# Altium integrated library Actel ProASIC PLUS.IntLib: 242 symbols (part 3 of 36)
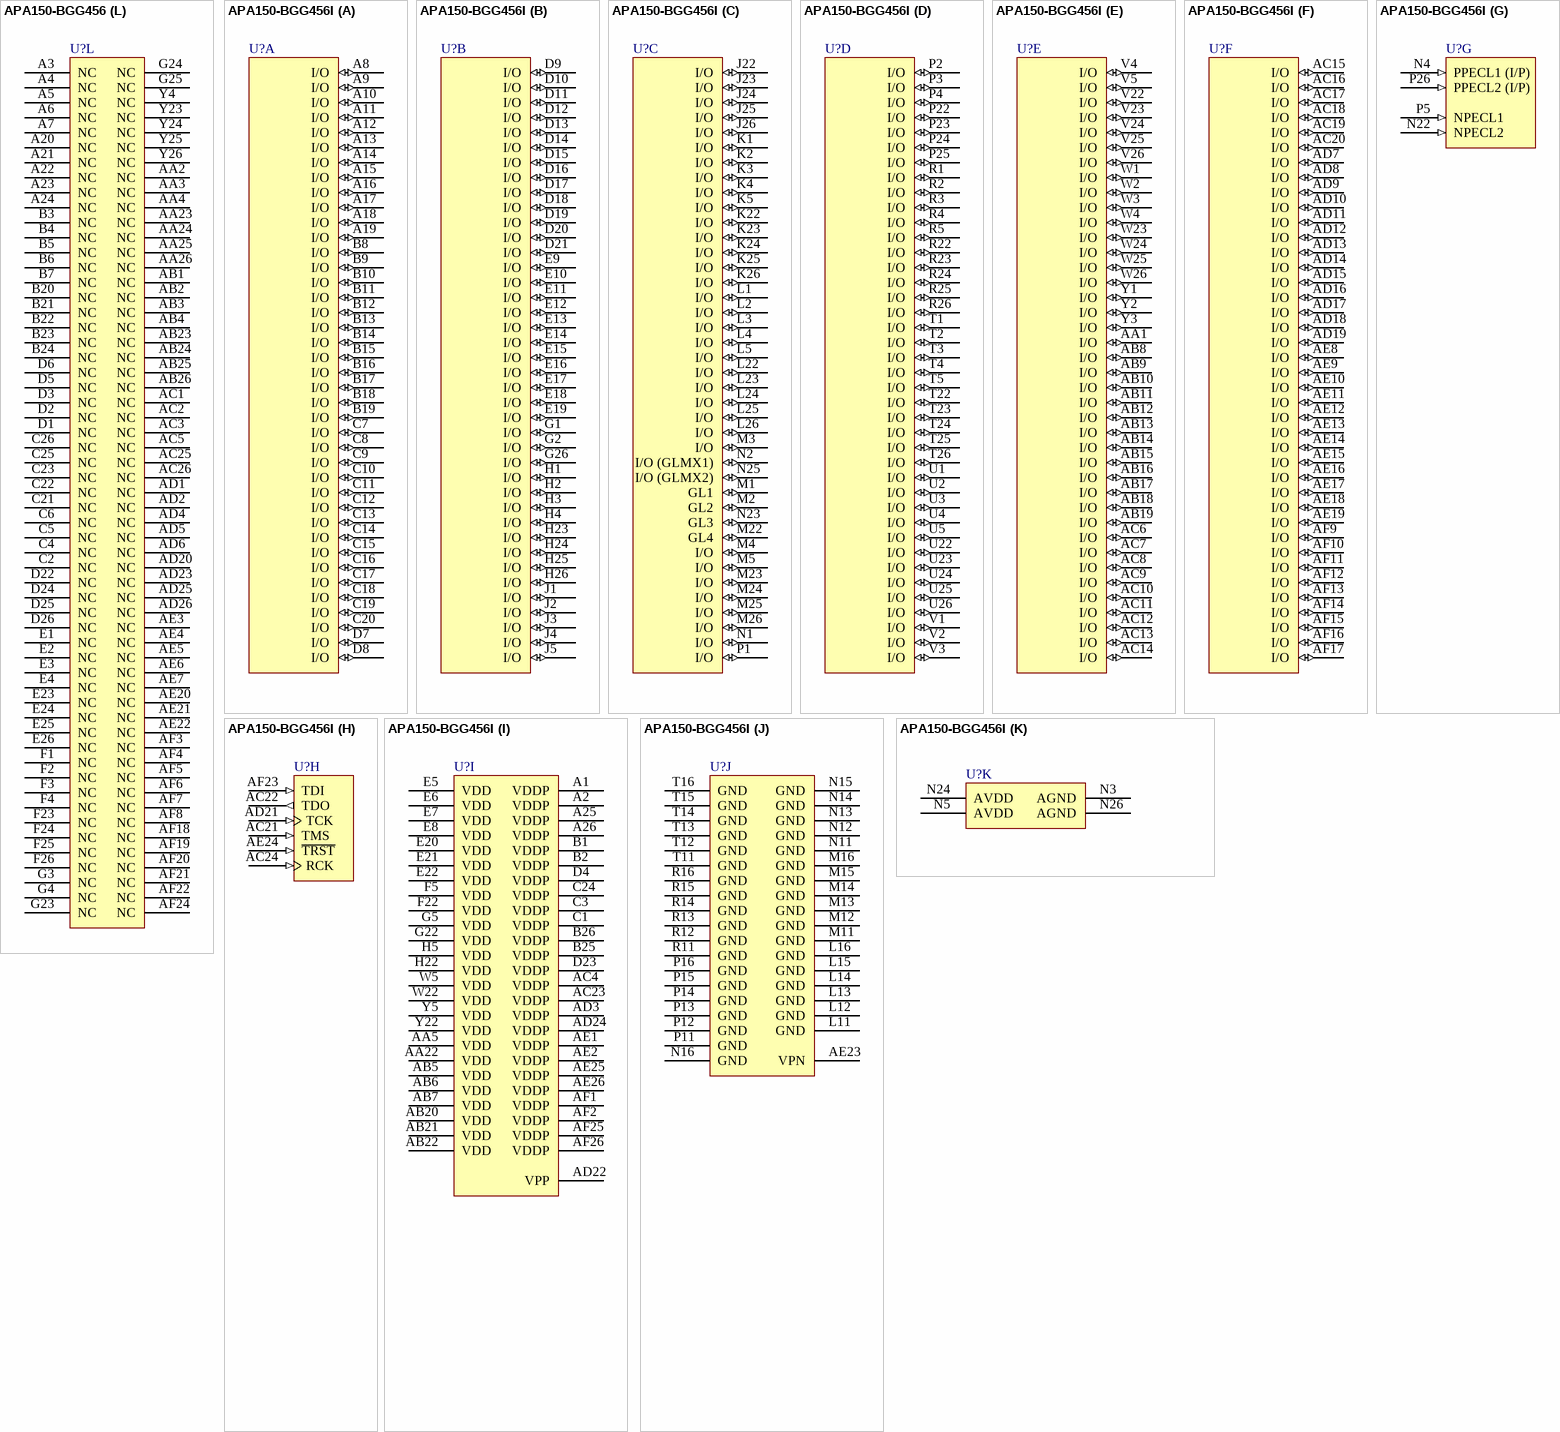
[diagram p199: symbols APA150-BGG456 to APA150-BGG456I]

## APA150-BGG456
designator U?
ProASICPlus APA150 Flash FPGA, 242 User IOs, 456-Pin PBGA, Speed Grade Standard, Commercial Grade, Pb-Free; DatasheetVersion: v5.9, Jan-2010; PackageVersion: ver11.2, Nov-2009; PackageReference: BG456; PackageDescription: 456-Ball Plastic Ball Grid Array (BG456); Code_JEDEC: MS-034-BAR-2; ComponentLink1Description: Manufacturer URL; ComponentLink1URL: http://www.actel.com/; ComponentLink2Description: ProASIC PLUS Datasheet; ComponentLink2URL: http://www.actel.com/documents/ProASICPLUS_DS.pdf; ComponentLink3Description: Package Mechanical Drawings; ComponentLink3URL: http://www.actel.com/documents/PckgMechDrwngs.pdf; ComponentLink4Description: ProASIC PLUS Documents; ComponentLink4URL: http://www.actel.com/products/proasicplus/docs.aspx
footprint BG456 (BGA, 456-Leads, Body 35x35mm, Pitch 1.27mm)
part A pins: A8 I/O (io), A9 I/O (io), A10 I/O (io), A11 I/O (io), A12 I/O (io), A13 I/O (io), A14 I/O (io), A15 I/O (io), A16 I/O (io), A17 I/O (io), A18 I/O (io), A19 I/O (io), B8 I/O (io), B9 I/O (io), B10 I/O (io), B11 I/O (io), B12 I/O (io), B13 I/O (io), B14 I/O (io), B15 I/O (io), B16 I/O (io), B17 I/O (io), B18 I/O (io), B19 I/O (io), C7 I/O (io), C8 I/O (io), C9 I/O (io), C10 I/O (io), C11 I/O (io), C12 I/O (io), C13 I/O (io), C14 I/O (io), C15 I/O (io), C16 I/O (io), C17 I/O (io), C18 I/O (io), C19 I/O (io), C20 I/O (io), D7 I/O (io), D8 I/O (io)
part B pins: D9 I/O (io), D10 I/O (io), D11 I/O (io), D12 I/O (io), D13 I/O (io), D14 I/O (io), D15 I/O (io), D16 I/O (io), D17 I/O (io), D18 I/O (io), D19 I/O (io), D20 I/O (io), D21 I/O (io), E9 I/O (io), E10 I/O (io), E11 I/O (io), E12 I/O (io), E13 I/O (io), E14 I/O (io), E15 I/O (io), E16 I/O (io), E17 I/O (io), E18 I/O (io), E19 I/O (io), G1 I/O (io), G2 I/O (io), G26 I/O (io), H1 I/O (io), H2 I/O (io), H3 I/O (io), H4 I/O (io), H23 I/O (io), H24 I/O (io), H25 I/O (io), H26 I/O (io), J1 I/O (io), J2 I/O (io), J3 I/O (io), J4 I/O (io), J5 I/O (io)
part C pins: J22 I/O (io), J23 I/O (io), J24 I/O (io), J25 I/O (io), J26 I/O (io), K1 I/O (io), K2 I/O (io), K3 I/O (io), K4 I/O (io), K5 I/O (io), K22 I/O (io), K23 I/O (io), K24 I/O (io), K25 I/O (io), K26 I/O (io), L1 I/O (io), L2 I/O (io), L3 I/O (io), L4 I/O (io), L5 I/O (io), L22 I/O (io), L23 I/O (io), L24 I/O (io), L25 I/O (io), L26 I/O (io), M1 GL1 (io), M2 GL2 (io), M3 I/O (io), M4 I/O (io), M5 I/O (io), M22 GL4 (io), M23 I/O (io), M24 I/O (io), M25 I/O (io), M26 I/O (io), N1 I/O (io), N2 I/O (GLMX1) (io), N23 GL3 (io), N25 I/O (GLMX2) (io), P1 I/O (io)
part D pins: P2 I/O (io), P3 I/O (io), P4 I/O (io), P22 I/O (io), P23 I/O (io), P24 I/O (io), P25 I/O (io), R1 I/O (io), R2 I/O (io), R3 I/O (io), R4 I/O (io), R5 I/O (io), R22 I/O (io), R23 I/O (io), R24 I/O (io), R25 I/O (io), R26 I/O (io), T1 I/O (io), T2 I/O (io), T3 I/O (io), T4 I/O (io), T5 I/O (io), T22 I/O (io), T23 I/O (io), T24 I/O (io), T25 I/O (io), T26 I/O (io), U1 I/O (io), U2 I/O (io), U3 I/O (io), U4 I/O (io), U5 I/O (io), U22 I/O (io), U23 I/O (io), U24 I/O (io), U25 I/O (io), U26 I/O (io), V1 I/O (io), V2 I/O (io), V3 I/O (io)
part E pins: AA1 I/O (io), AB8 I/O (io), AB9 I/O (io), AB10 I/O (io), AB11 I/O (io), AB12 I/O (io), AB13 I/O (io), AB14 I/O (io), AB15 I/O (io), AB16 I/O (io), AB17 I/O (io), AB18 I/O (io), AB19 I/O (io), AC6 I/O (io), AC7 I/O (io), AC8 I/O (io), AC9 I/O (io), AC10 I/O (io), AC11 I/O (io), AC12 I/O (io), AC13 I/O (io), AC14 I/O (io), V4 I/O (io), V5 I/O (io), V22 I/O (io), V23 I/O (io), V24 I/O (io), V25 I/O (io), V26 I/O (io), W1 I/O (io), W2 I/O (io), W3 I/O (io), W4 I/O (io), W23 I/O (io), W24 I/O (io), W25 I/O (io), W26 I/O (io), Y1 I/O (io), Y2 I/O (io), Y3 I/O (io)
part F pins: AC15 I/O (io), AC16 I/O (io), AC17 I/O (io), AC18 I/O (io), AC19 I/O (io), AC20 I/O (io), AD7 I/O (io), AD8 I/O (io), AD9 I/O (io), AD10 I/O (io), AD11 I/O (io), AD12 I/O (io), AD13 I/O (io), AD14 I/O (io), AD15 I/O (io), AD16 I/O (io), AD17 I/O (io), AD18 I/O (io), AD19 I/O (io), AE8 I/O (io), AE9 I/O (io), AE10 I/O (io), AE11 I/O (io), AE12 I/O (io), AE13 I/O (io), AE14 I/O (io), AE15 I/O (io), AE16 I/O (io), AE17 I/O (io), AE18 I/O (io), AE19 I/O (io), AF9 I/O (io), AF10 I/O (io), AF11 I/O (io), AF12 I/O (io), AF13 I/O (io), AF14 I/O (io), AF15 I/O (io), AF16 I/O (io), AF17 I/O (io)
part G pins: N4 PPECL1 (I/P) (in), N22 NPECL2 (in), P5 NPECL1 (in), P26 PPECL2 (I/P) (in)
part H pins: AC21 TMS (in), AC22 TDO (out), AC24 RCK (in), AD21 TCK (in), AE24 ~{TRST} (in), AF23 TDI (in)
part I pins: A1 VDDP (power), A2 VDDP (power), A25 VDDP (power), A26 VDDP (power), AA5 VDD (power), AA22 VDD (power), AB5 VDD (power), AB6 VDD (power), AB7 VDD (power), AB20 VDD (power), AB21 VDD (power), AB22 VDD (power), AC4 VDDP (power), AC23 VDDP (power), AD3 VDDP (power), AD22 VPP (power), AD24 VDDP (power), AE1 VDDP (power), AE2 VDDP (power), AE25 VDDP (power), AE26 VDDP (power), AF1 VDDP (power), AF2 VDDP (power), AF25 VDDP (power), AF26 VDDP (power), B1 VDDP (power), B2 VDDP (power), B25 VDDP (power), B26 VDDP (power), C1 VDDP (power), C3 VDDP (power), C24 VDDP (power), D4 VDDP (power), D23 VDDP (power), E5 VDD (power), E6 VDD (power), E7 VDD (power), E8 VDD (power), E20 VDD (power), E21 VDD (power), E22 VDD (power), F5 VDD (power), F22 VDD (power), G5 VDD (power), G22 VDD (power), H5 VDD (power), H22 VDD (power), W5 VDD (power), W22 VDD (power), Y5 VDD (power), Y22 VDD (power)
part J pins: AE23 VPN (power), L11 GND (power), L12 GND (power), L13 GND (power), L14 GND (power), L15 GND (power), L16 GND (power), M11 GND (power), M12 GND (power), M13 GND (power), M14 GND (power), M15 GND (power), M16 GND (power), N11 GND (power), N12 GND (power), N13 GND (power), N14 GND (power), N15 GND (power), N16 GND (power), P11 GND (power), P12 GND (power), P13 GND (power), P14 GND (power), P15 GND (power), P16 GND (power), R11 GND (power), R12 GND (power), R13 GND (power), R14 GND (power), R15 GND (power), R16 GND (power), T11 GND (power), T12 GND (power), T13 GND (power), T14 GND (power), T15 GND (power), T16 GND (power)
part K pins: N3 AGND (power), N5 AVDD (power), N24 AVDD (power), N26 AGND (power)
part L pins: A3 NC, A4 NC, A5 NC, A6 NC, A7 NC, A20 NC, A21 NC, A22 NC, A23 NC, A24 NC, AA2 NC, AA3 NC, AA4 NC, AA23 NC, AA24 NC, AA25 NC, AA26 NC, AB1 NC, AB2 NC, AB3 NC, AB4 NC, AB23 NC, AB24 NC, AB25 NC, AB26 NC, AC1 NC, AC2 NC, AC3 NC, AC5 NC, AC25 NC, AC26 NC, AD1 NC, AD2 NC, AD4 NC, AD5 NC, AD6 NC, AD20 NC, AD23 NC, AD25 NC, AD26 NC, AE3 NC, AE4 NC, AE5 NC, AE6 NC, AE7 NC, AE20 NC, AE21 NC, AE22 NC, AF3 NC, AF4 NC, AF5 NC, AF6 NC, AF7 NC, AF8 NC, AF18 NC, AF19 NC, AF20 NC, AF21 NC, AF22 NC, AF24 NC, B3 NC, B4 NC, B5 NC, B6 NC, B7 NC, B20 NC, B21 NC, B22 NC, B23 NC, B24 NC, C2 NC, C4 NC, C5 NC, C6 NC, C21 NC, C22 NC, C23 NC, C25 NC, C26 NC, D1 NC, D2 NC, D3 NC, D5 NC, D6 NC, D22 NC, D24 NC, D25 NC, D26 NC, E1 NC, E2 NC, E3 NC, E4 NC, E23 NC, E24 NC, E25 NC, E26 NC, F1 NC, F2 NC, F3 NC, F4 NC, F23 NC, F24 NC, F25 NC, F26 NC, G3 NC, G4 NC, G23 NC, G24 NC, G25 NC, Y4 NC, Y23 NC, Y24 NC, Y25 NC, Y26 NC

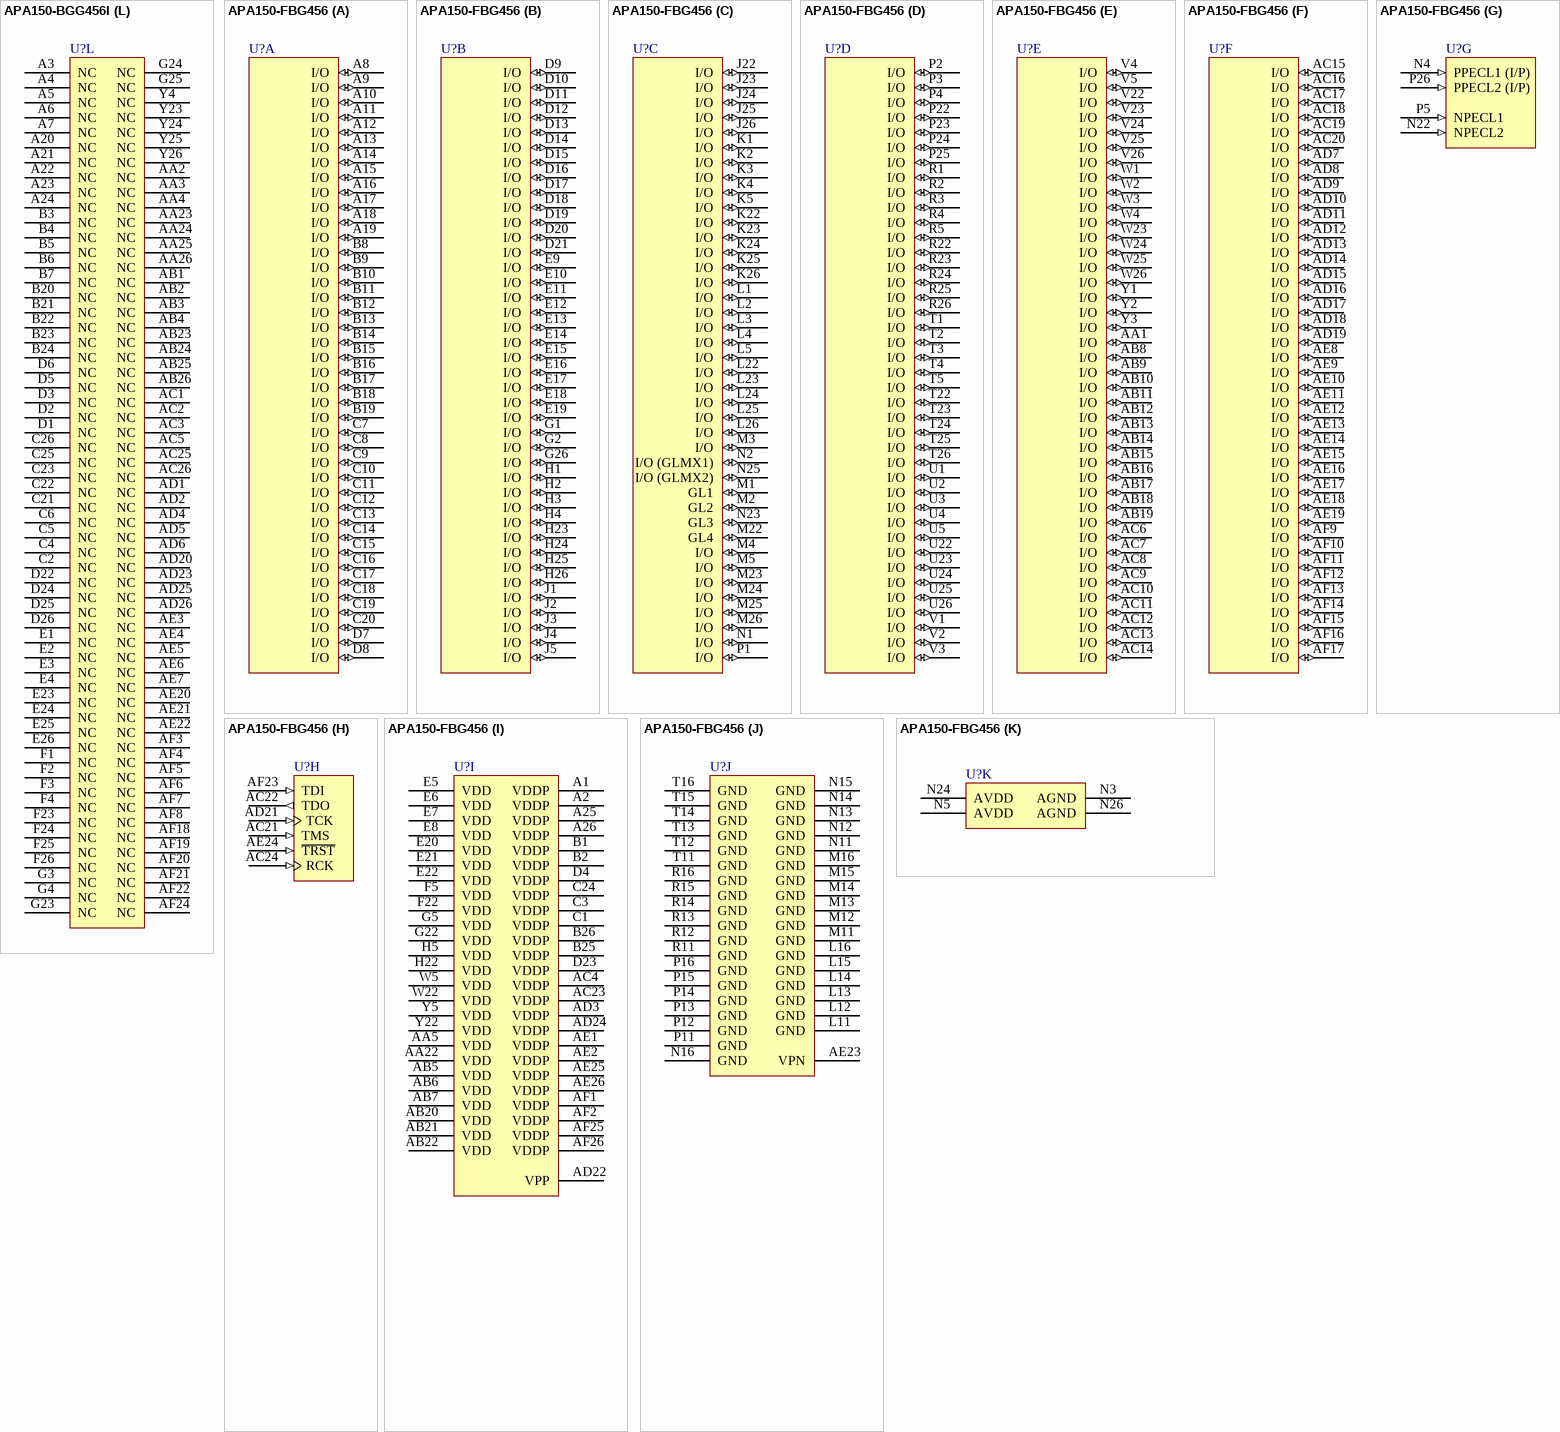
[diagram p16: symbols APA150-BGG456I to APA150-FBG456]

## APA150-BGG456I
designator U?
ProASICPlus APA150 Flash FPGA, 242 User IOs, 456-Pin PBGA, Speed Grade Standard, Industrial Grade, Pb-Free; DatasheetVersion: v5.9, Jan-2010; PackageVersion: ver11.2, Nov-2009; PackageReference: BG456; PackageDescription: 456-Ball Plastic Ball Grid Array (BG456); Code_JEDEC: MS-034-BAR-2; ComponentLink1Description: Manufacturer URL; ComponentLink1URL: http://www.actel.com/; ComponentLink2Description: ProASIC PLUS Datasheet; ComponentLink2URL: http://www.actel.com/documents/ProASICPLUS_DS.pdf; ComponentLink3Description: Package Mechanical Drawings; ComponentLink3URL: http://www.actel.com/documents/PckgMechDrwngs.pdf; ComponentLink4Description: ProASIC PLUS Documents; ComponentLink4URL: http://www.actel.com/products/proasicplus/docs.aspx
footprint BG456 (BGA, 456-Leads, Body 35x35mm, Pitch 1.27mm)
part A pins: A8 I/O (io), A9 I/O (io), A10 I/O (io), A11 I/O (io), A12 I/O (io), A13 I/O (io), A14 I/O (io), A15 I/O (io), A16 I/O (io), A17 I/O (io), A18 I/O (io), A19 I/O (io), B8 I/O (io), B9 I/O (io), B10 I/O (io), B11 I/O (io), B12 I/O (io), B13 I/O (io), B14 I/O (io), B15 I/O (io), B16 I/O (io), B17 I/O (io), B18 I/O (io), B19 I/O (io), C7 I/O (io), C8 I/O (io), C9 I/O (io), C10 I/O (io), C11 I/O (io), C12 I/O (io), C13 I/O (io), C14 I/O (io), C15 I/O (io), C16 I/O (io), C17 I/O (io), C18 I/O (io), C19 I/O (io), C20 I/O (io), D7 I/O (io), D8 I/O (io)
part B pins: D9 I/O (io), D10 I/O (io), D11 I/O (io), D12 I/O (io), D13 I/O (io), D14 I/O (io), D15 I/O (io), D16 I/O (io), D17 I/O (io), D18 I/O (io), D19 I/O (io), D20 I/O (io), D21 I/O (io), E9 I/O (io), E10 I/O (io), E11 I/O (io), E12 I/O (io), E13 I/O (io), E14 I/O (io), E15 I/O (io), E16 I/O (io), E17 I/O (io), E18 I/O (io), E19 I/O (io), G1 I/O (io), G2 I/O (io), G26 I/O (io), H1 I/O (io), H2 I/O (io), H3 I/O (io), H4 I/O (io), H23 I/O (io), H24 I/O (io), H25 I/O (io), H26 I/O (io), J1 I/O (io), J2 I/O (io), J3 I/O (io), J4 I/O (io), J5 I/O (io)
part C pins: J22 I/O (io), J23 I/O (io), J24 I/O (io), J25 I/O (io), J26 I/O (io), K1 I/O (io), K2 I/O (io), K3 I/O (io), K4 I/O (io), K5 I/O (io), K22 I/O (io), K23 I/O (io), K24 I/O (io), K25 I/O (io), K26 I/O (io), L1 I/O (io), L2 I/O (io), L3 I/O (io), L4 I/O (io), L5 I/O (io), L22 I/O (io), L23 I/O (io), L24 I/O (io), L25 I/O (io), L26 I/O (io), M1 GL1 (io), M2 GL2 (io), M3 I/O (io), M4 I/O (io), M5 I/O (io), M22 GL4 (io), M23 I/O (io), M24 I/O (io), M25 I/O (io), M26 I/O (io), N1 I/O (io), N2 I/O (GLMX1) (io), N23 GL3 (io), N25 I/O (GLMX2) (io), P1 I/O (io)
part D pins: P2 I/O (io), P3 I/O (io), P4 I/O (io), P22 I/O (io), P23 I/O (io), P24 I/O (io), P25 I/O (io), R1 I/O (io), R2 I/O (io), R3 I/O (io), R4 I/O (io), R5 I/O (io), R22 I/O (io), R23 I/O (io), R24 I/O (io), R25 I/O (io), R26 I/O (io), T1 I/O (io), T2 I/O (io), T3 I/O (io), T4 I/O (io), T5 I/O (io), T22 I/O (io), T23 I/O (io), T24 I/O (io), T25 I/O (io), T26 I/O (io), U1 I/O (io), U2 I/O (io), U3 I/O (io), U4 I/O (io), U5 I/O (io), U22 I/O (io), U23 I/O (io), U24 I/O (io), U25 I/O (io), U26 I/O (io), V1 I/O (io), V2 I/O (io), V3 I/O (io)
part E pins: AA1 I/O (io), AB8 I/O (io), AB9 I/O (io), AB10 I/O (io), AB11 I/O (io), AB12 I/O (io), AB13 I/O (io), AB14 I/O (io), AB15 I/O (io), AB16 I/O (io), AB17 I/O (io), AB18 I/O (io), AB19 I/O (io), AC6 I/O (io), AC7 I/O (io), AC8 I/O (io), AC9 I/O (io), AC10 I/O (io), AC11 I/O (io), AC12 I/O (io), AC13 I/O (io), AC14 I/O (io), V4 I/O (io), V5 I/O (io), V22 I/O (io), V23 I/O (io), V24 I/O (io), V25 I/O (io), V26 I/O (io), W1 I/O (io), W2 I/O (io), W3 I/O (io), W4 I/O (io), W23 I/O (io), W24 I/O (io), W25 I/O (io), W26 I/O (io), Y1 I/O (io), Y2 I/O (io), Y3 I/O (io)
part F pins: AC15 I/O (io), AC16 I/O (io), AC17 I/O (io), AC18 I/O (io), AC19 I/O (io), AC20 I/O (io), AD7 I/O (io), AD8 I/O (io), AD9 I/O (io), AD10 I/O (io), AD11 I/O (io), AD12 I/O (io), AD13 I/O (io), AD14 I/O (io), AD15 I/O (io), AD16 I/O (io), AD17 I/O (io), AD18 I/O (io), AD19 I/O (io), AE8 I/O (io), AE9 I/O (io), AE10 I/O (io), AE11 I/O (io), AE12 I/O (io), AE13 I/O (io), AE14 I/O (io), AE15 I/O (io), AE16 I/O (io), AE17 I/O (io), AE18 I/O (io), AE19 I/O (io), AF9 I/O (io), AF10 I/O (io), AF11 I/O (io), AF12 I/O (io), AF13 I/O (io), AF14 I/O (io), AF15 I/O (io), AF16 I/O (io), AF17 I/O (io)
part G pins: N4 PPECL1 (I/P) (in), N22 NPECL2 (in), P5 NPECL1 (in), P26 PPECL2 (I/P) (in)
part H pins: AC21 TMS (in), AC22 TDO (out), AC24 RCK (in), AD21 TCK (in), AE24 ~{TRST} (in), AF23 TDI (in)
part I pins: A1 VDDP (power), A2 VDDP (power), A25 VDDP (power), A26 VDDP (power), AA5 VDD (power), AA22 VDD (power), AB5 VDD (power), AB6 VDD (power), AB7 VDD (power), AB20 VDD (power), AB21 VDD (power), AB22 VDD (power), AC4 VDDP (power), AC23 VDDP (power), AD3 VDDP (power), AD22 VPP (power), AD24 VDDP (power), AE1 VDDP (power), AE2 VDDP (power), AE25 VDDP (power), AE26 VDDP (power), AF1 VDDP (power), AF2 VDDP (power), AF25 VDDP (power), AF26 VDDP (power), B1 VDDP (power), B2 VDDP (power), B25 VDDP (power), B26 VDDP (power), C1 VDDP (power), C3 VDDP (power), C24 VDDP (power), D4 VDDP (power), D23 VDDP (power), E5 VDD (power), E6 VDD (power), E7 VDD (power), E8 VDD (power), E20 VDD (power), E21 VDD (power), E22 VDD (power), F5 VDD (power), F22 VDD (power), G5 VDD (power), G22 VDD (power), H5 VDD (power), H22 VDD (power), W5 VDD (power), W22 VDD (power), Y5 VDD (power), Y22 VDD (power)
part J pins: AE23 VPN (power), L11 GND (power), L12 GND (power), L13 GND (power), L14 GND (power), L15 GND (power), L16 GND (power), M11 GND (power), M12 GND (power), M13 GND (power), M14 GND (power), M15 GND (power), M16 GND (power), N11 GND (power), N12 GND (power), N13 GND (power), N14 GND (power), N15 GND (power), N16 GND (power), P11 GND (power), P12 GND (power), P13 GND (power), P14 GND (power), P15 GND (power), P16 GND (power), R11 GND (power), R12 GND (power), R13 GND (power), R14 GND (power), R15 GND (power), R16 GND (power), T11 GND (power), T12 GND (power), T13 GND (power), T14 GND (power), T15 GND (power), T16 GND (power)
part K pins: N3 AGND (power), N5 AVDD (power), N24 AVDD (power), N26 AGND (power)
part L pins: A3 NC, A4 NC, A5 NC, A6 NC, A7 NC, A20 NC, A21 NC, A22 NC, A23 NC, A24 NC, AA2 NC, AA3 NC, AA4 NC, AA23 NC, AA24 NC, AA25 NC, AA26 NC, AB1 NC, AB2 NC, AB3 NC, AB4 NC, AB23 NC, AB24 NC, AB25 NC, AB26 NC, AC1 NC, AC2 NC, AC3 NC, AC5 NC, AC25 NC, AC26 NC, AD1 NC, AD2 NC, AD4 NC, AD5 NC, AD6 NC, AD20 NC, AD23 NC, AD25 NC, AD26 NC, AE3 NC, AE4 NC, AE5 NC, AE6 NC, AE7 NC, AE20 NC, AE21 NC, AE22 NC, AF3 NC, AF4 NC, AF5 NC, AF6 NC, AF7 NC, AF8 NC, AF18 NC, AF19 NC, AF20 NC, AF21 NC, AF22 NC, AF24 NC, B3 NC, B4 NC, B5 NC, B6 NC, B7 NC, B20 NC, B21 NC, B22 NC, B23 NC, B24 NC, C2 NC, C4 NC, C5 NC, C6 NC, C21 NC, C22 NC, C23 NC, C25 NC, C26 NC, D1 NC, D2 NC, D3 NC, D5 NC, D6 NC, D22 NC, D24 NC, D25 NC, D26 NC, E1 NC, E2 NC, E3 NC, E4 NC, E23 NC, E24 NC, E25 NC, E26 NC, F1 NC, F2 NC, F3 NC, F4 NC, F23 NC, F24 NC, F25 NC, F26 NC, G3 NC, G4 NC, G23 NC, G24 NC, G25 NC, Y4 NC, Y23 NC, Y24 NC, Y25 NC, Y26 NC

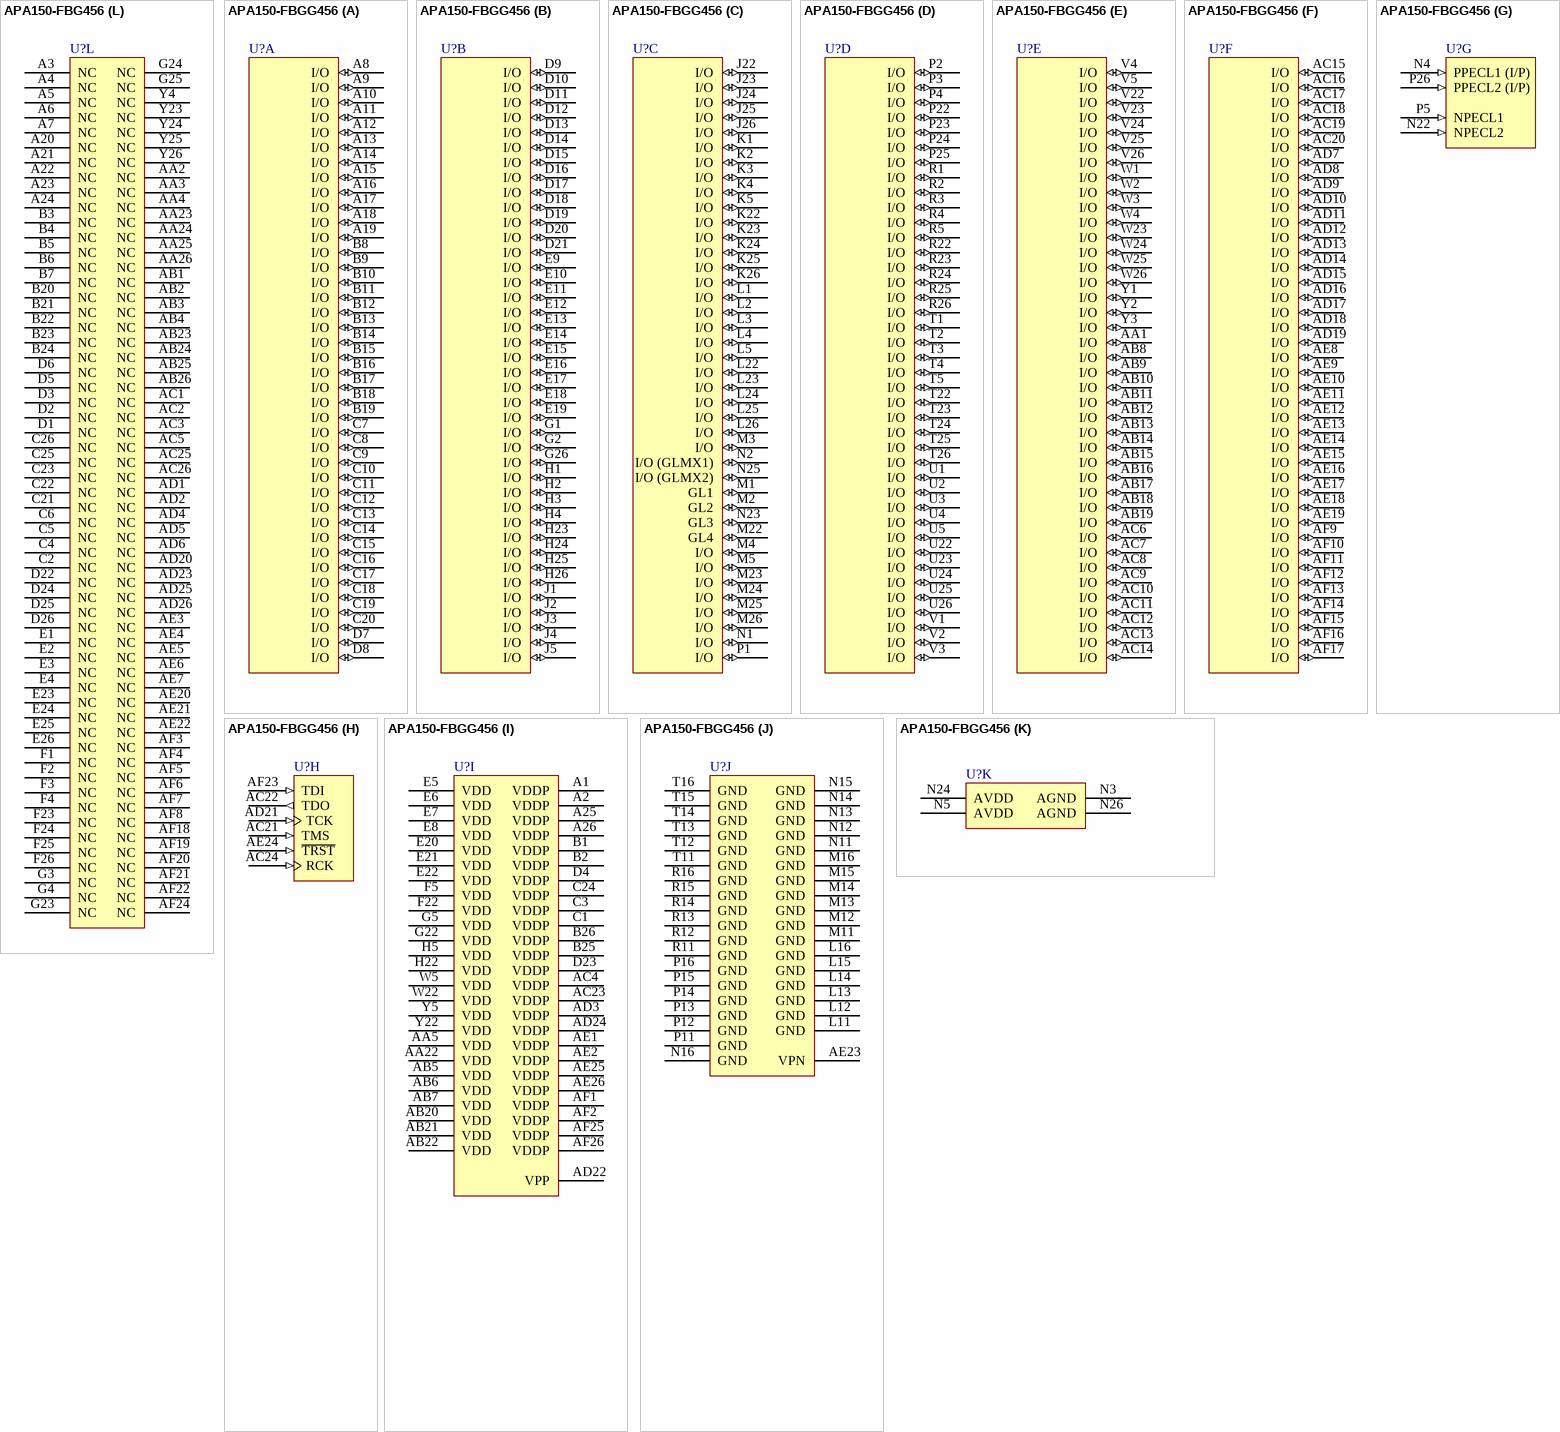
[diagram p17: symbols APA150-FBG456 to APA150-FBGG456]

## APA150-FBG456
designator U?
ProASICPlus APA150 Flash FPGA, 242 User IOs, 456-Pin PBGA, Speed Grade F, Commercial Grade; DatasheetVersion: v5.8, Jun-2009; PackageVersion: ver11.2, Nov-2009; PackageReference: BG456; PackageDescription: 456-Ball Plastic Ball Grid Array (BG456); Code_JEDEC: MS-034-BAR-2; ComponentLink1Description: Manufacturer URL; ComponentLink1URL: http://www.actel.com/; ComponentLink2Description: ProASIC PLUS Datasheet; ComponentLink2URL: http://www.actel.com/documents/ProASICPLUS_DS.pdf; ComponentLink3Description: Package Mechanical Drawings; ComponentLink3URL: http://www.actel.com/documents/PckgMechDrwngs.pdf; ComponentLink4Description: ProASIC PLUS Documents; ComponentLink4URL: http://www.actel.com/products/proasicplus/docs.aspx
footprint BG456 (BGA, 456-Leads, Body 35x35mm, Pitch 1.27mm)
part A pins: A8 I/O (io), A9 I/O (io), A10 I/O (io), A11 I/O (io), A12 I/O (io), A13 I/O (io), A14 I/O (io), A15 I/O (io), A16 I/O (io), A17 I/O (io), A18 I/O (io), A19 I/O (io), B8 I/O (io), B9 I/O (io), B10 I/O (io), B11 I/O (io), B12 I/O (io), B13 I/O (io), B14 I/O (io), B15 I/O (io), B16 I/O (io), B17 I/O (io), B18 I/O (io), B19 I/O (io), C7 I/O (io), C8 I/O (io), C9 I/O (io), C10 I/O (io), C11 I/O (io), C12 I/O (io), C13 I/O (io), C14 I/O (io), C15 I/O (io), C16 I/O (io), C17 I/O (io), C18 I/O (io), C19 I/O (io), C20 I/O (io), D7 I/O (io), D8 I/O (io)
part B pins: D9 I/O (io), D10 I/O (io), D11 I/O (io), D12 I/O (io), D13 I/O (io), D14 I/O (io), D15 I/O (io), D16 I/O (io), D17 I/O (io), D18 I/O (io), D19 I/O (io), D20 I/O (io), D21 I/O (io), E9 I/O (io), E10 I/O (io), E11 I/O (io), E12 I/O (io), E13 I/O (io), E14 I/O (io), E15 I/O (io), E16 I/O (io), E17 I/O (io), E18 I/O (io), E19 I/O (io), G1 I/O (io), G2 I/O (io), G26 I/O (io), H1 I/O (io), H2 I/O (io), H3 I/O (io), H4 I/O (io), H23 I/O (io), H24 I/O (io), H25 I/O (io), H26 I/O (io), J1 I/O (io), J2 I/O (io), J3 I/O (io), J4 I/O (io), J5 I/O (io)
part C pins: J22 I/O (io), J23 I/O (io), J24 I/O (io), J25 I/O (io), J26 I/O (io), K1 I/O (io), K2 I/O (io), K3 I/O (io), K4 I/O (io), K5 I/O (io), K22 I/O (io), K23 I/O (io), K24 I/O (io), K25 I/O (io), K26 I/O (io), L1 I/O (io), L2 I/O (io), L3 I/O (io), L4 I/O (io), L5 I/O (io), L22 I/O (io), L23 I/O (io), L24 I/O (io), L25 I/O (io), L26 I/O (io), M1 GL1 (io), M2 GL2 (io), M3 I/O (io), M4 I/O (io), M5 I/O (io), M22 GL4 (io), M23 I/O (io), M24 I/O (io), M25 I/O (io), M26 I/O (io), N1 I/O (io), N2 I/O (GLMX1) (io), N23 GL3 (io), N25 I/O (GLMX2) (io), P1 I/O (io)
part D pins: P2 I/O (io), P3 I/O (io), P4 I/O (io), P22 I/O (io), P23 I/O (io), P24 I/O (io), P25 I/O (io), R1 I/O (io), R2 I/O (io), R3 I/O (io), R4 I/O (io), R5 I/O (io), R22 I/O (io), R23 I/O (io), R24 I/O (io), R25 I/O (io), R26 I/O (io), T1 I/O (io), T2 I/O (io), T3 I/O (io), T4 I/O (io), T5 I/O (io), T22 I/O (io), T23 I/O (io), T24 I/O (io), T25 I/O (io), T26 I/O (io), U1 I/O (io), U2 I/O (io), U3 I/O (io), U4 I/O (io), U5 I/O (io), U22 I/O (io), U23 I/O (io), U24 I/O (io), U25 I/O (io), U26 I/O (io), V1 I/O (io), V2 I/O (io), V3 I/O (io)
part E pins: AA1 I/O (io), AB8 I/O (io), AB9 I/O (io), AB10 I/O (io), AB11 I/O (io), AB12 I/O (io), AB13 I/O (io), AB14 I/O (io), AB15 I/O (io), AB16 I/O (io), AB17 I/O (io), AB18 I/O (io), AB19 I/O (io), AC6 I/O (io), AC7 I/O (io), AC8 I/O (io), AC9 I/O (io), AC10 I/O (io), AC11 I/O (io), AC12 I/O (io), AC13 I/O (io), AC14 I/O (io), V4 I/O (io), V5 I/O (io), V22 I/O (io), V23 I/O (io), V24 I/O (io), V25 I/O (io), V26 I/O (io), W1 I/O (io), W2 I/O (io), W3 I/O (io), W4 I/O (io), W23 I/O (io), W24 I/O (io), W25 I/O (io), W26 I/O (io), Y1 I/O (io), Y2 I/O (io), Y3 I/O (io)
part F pins: AC15 I/O (io), AC16 I/O (io), AC17 I/O (io), AC18 I/O (io), AC19 I/O (io), AC20 I/O (io), AD7 I/O (io), AD8 I/O (io), AD9 I/O (io), AD10 I/O (io), AD11 I/O (io), AD12 I/O (io), AD13 I/O (io), AD14 I/O (io), AD15 I/O (io), AD16 I/O (io), AD17 I/O (io), AD18 I/O (io), AD19 I/O (io), AE8 I/O (io), AE9 I/O (io), AE10 I/O (io), AE11 I/O (io), AE12 I/O (io), AE13 I/O (io), AE14 I/O (io), AE15 I/O (io), AE16 I/O (io), AE17 I/O (io), AE18 I/O (io), AE19 I/O (io), AF9 I/O (io), AF10 I/O (io), AF11 I/O (io), AF12 I/O (io), AF13 I/O (io), AF14 I/O (io), AF15 I/O (io), AF16 I/O (io), AF17 I/O (io)
part G pins: N4 PPECL1 (I/P) (in), N22 NPECL2 (in), P5 NPECL1 (in), P26 PPECL2 (I/P) (in)
part H pins: AC21 TMS (in), AC22 TDO (out), AC24 RCK (in), AD21 TCK (in), AE24 ~{TRST} (in), AF23 TDI (in)
part I pins: A1 VDDP (power), A2 VDDP (power), A25 VDDP (power), A26 VDDP (power), AA5 VDD (power), AA22 VDD (power), AB5 VDD (power), AB6 VDD (power), AB7 VDD (power), AB20 VDD (power), AB21 VDD (power), AB22 VDD (power), AC4 VDDP (power), AC23 VDDP (power), AD3 VDDP (power), AD22 VPP (power), AD24 VDDP (power), AE1 VDDP (power), AE2 VDDP (power), AE25 VDDP (power), AE26 VDDP (power), AF1 VDDP (power), AF2 VDDP (power), AF25 VDDP (power), AF26 VDDP (power), B1 VDDP (power), B2 VDDP (power), B25 VDDP (power), B26 VDDP (power), C1 VDDP (power), C3 VDDP (power), C24 VDDP (power), D4 VDDP (power), D23 VDDP (power), E5 VDD (power), E6 VDD (power), E7 VDD (power), E8 VDD (power), E20 VDD (power), E21 VDD (power), E22 VDD (power), F5 VDD (power), F22 VDD (power), G5 VDD (power), G22 VDD (power), H5 VDD (power), H22 VDD (power), W5 VDD (power), W22 VDD (power), Y5 VDD (power), Y22 VDD (power)
part J pins: AE23 VPN (power), L11 GND (power), L12 GND (power), L13 GND (power), L14 GND (power), L15 GND (power), L16 GND (power), M11 GND (power), M12 GND (power), M13 GND (power), M14 GND (power), M15 GND (power), M16 GND (power), N11 GND (power), N12 GND (power), N13 GND (power), N14 GND (power), N15 GND (power), N16 GND (power), P11 GND (power), P12 GND (power), P13 GND (power), P14 GND (power), P15 GND (power), P16 GND (power), R11 GND (power), R12 GND (power), R13 GND (power), R14 GND (power), R15 GND (power), R16 GND (power), T11 GND (power), T12 GND (power), T13 GND (power), T14 GND (power), T15 GND (power), T16 GND (power)
part K pins: N3 AGND (power), N5 AVDD (power), N24 AVDD (power), N26 AGND (power)
part L pins: A3 NC, A4 NC, A5 NC, A6 NC, A7 NC, A20 NC, A21 NC, A22 NC, A23 NC, A24 NC, AA2 NC, AA3 NC, AA4 NC, AA23 NC, AA24 NC, AA25 NC, AA26 NC, AB1 NC, AB2 NC, AB3 NC, AB4 NC, AB23 NC, AB24 NC, AB25 NC, AB26 NC, AC1 NC, AC2 NC, AC3 NC, AC5 NC, AC25 NC, AC26 NC, AD1 NC, AD2 NC, AD4 NC, AD5 NC, AD6 NC, AD20 NC, AD23 NC, AD25 NC, AD26 NC, AE3 NC, AE4 NC, AE5 NC, AE6 NC, AE7 NC, AE20 NC, AE21 NC, AE22 NC, AF3 NC, AF4 NC, AF5 NC, AF6 NC, AF7 NC, AF8 NC, AF18 NC, AF19 NC, AF20 NC, AF21 NC, AF22 NC, AF24 NC, B3 NC, B4 NC, B5 NC, B6 NC, B7 NC, B20 NC, B21 NC, B22 NC, B23 NC, B24 NC, C2 NC, C4 NC, C5 NC, C6 NC, C21 NC, C22 NC, C23 NC, C25 NC, C26 NC, D1 NC, D2 NC, D3 NC, D5 NC, D6 NC, D22 NC, D24 NC, D25 NC, D26 NC, E1 NC, E2 NC, E3 NC, E4 NC, E23 NC, E24 NC, E25 NC, E26 NC, F1 NC, F2 NC, F3 NC, F4 NC, F23 NC, F24 NC, F25 NC, F26 NC, G3 NC, G4 NC, G23 NC, G24 NC, G25 NC, Y4 NC, Y23 NC, Y24 NC, Y25 NC, Y26 NC

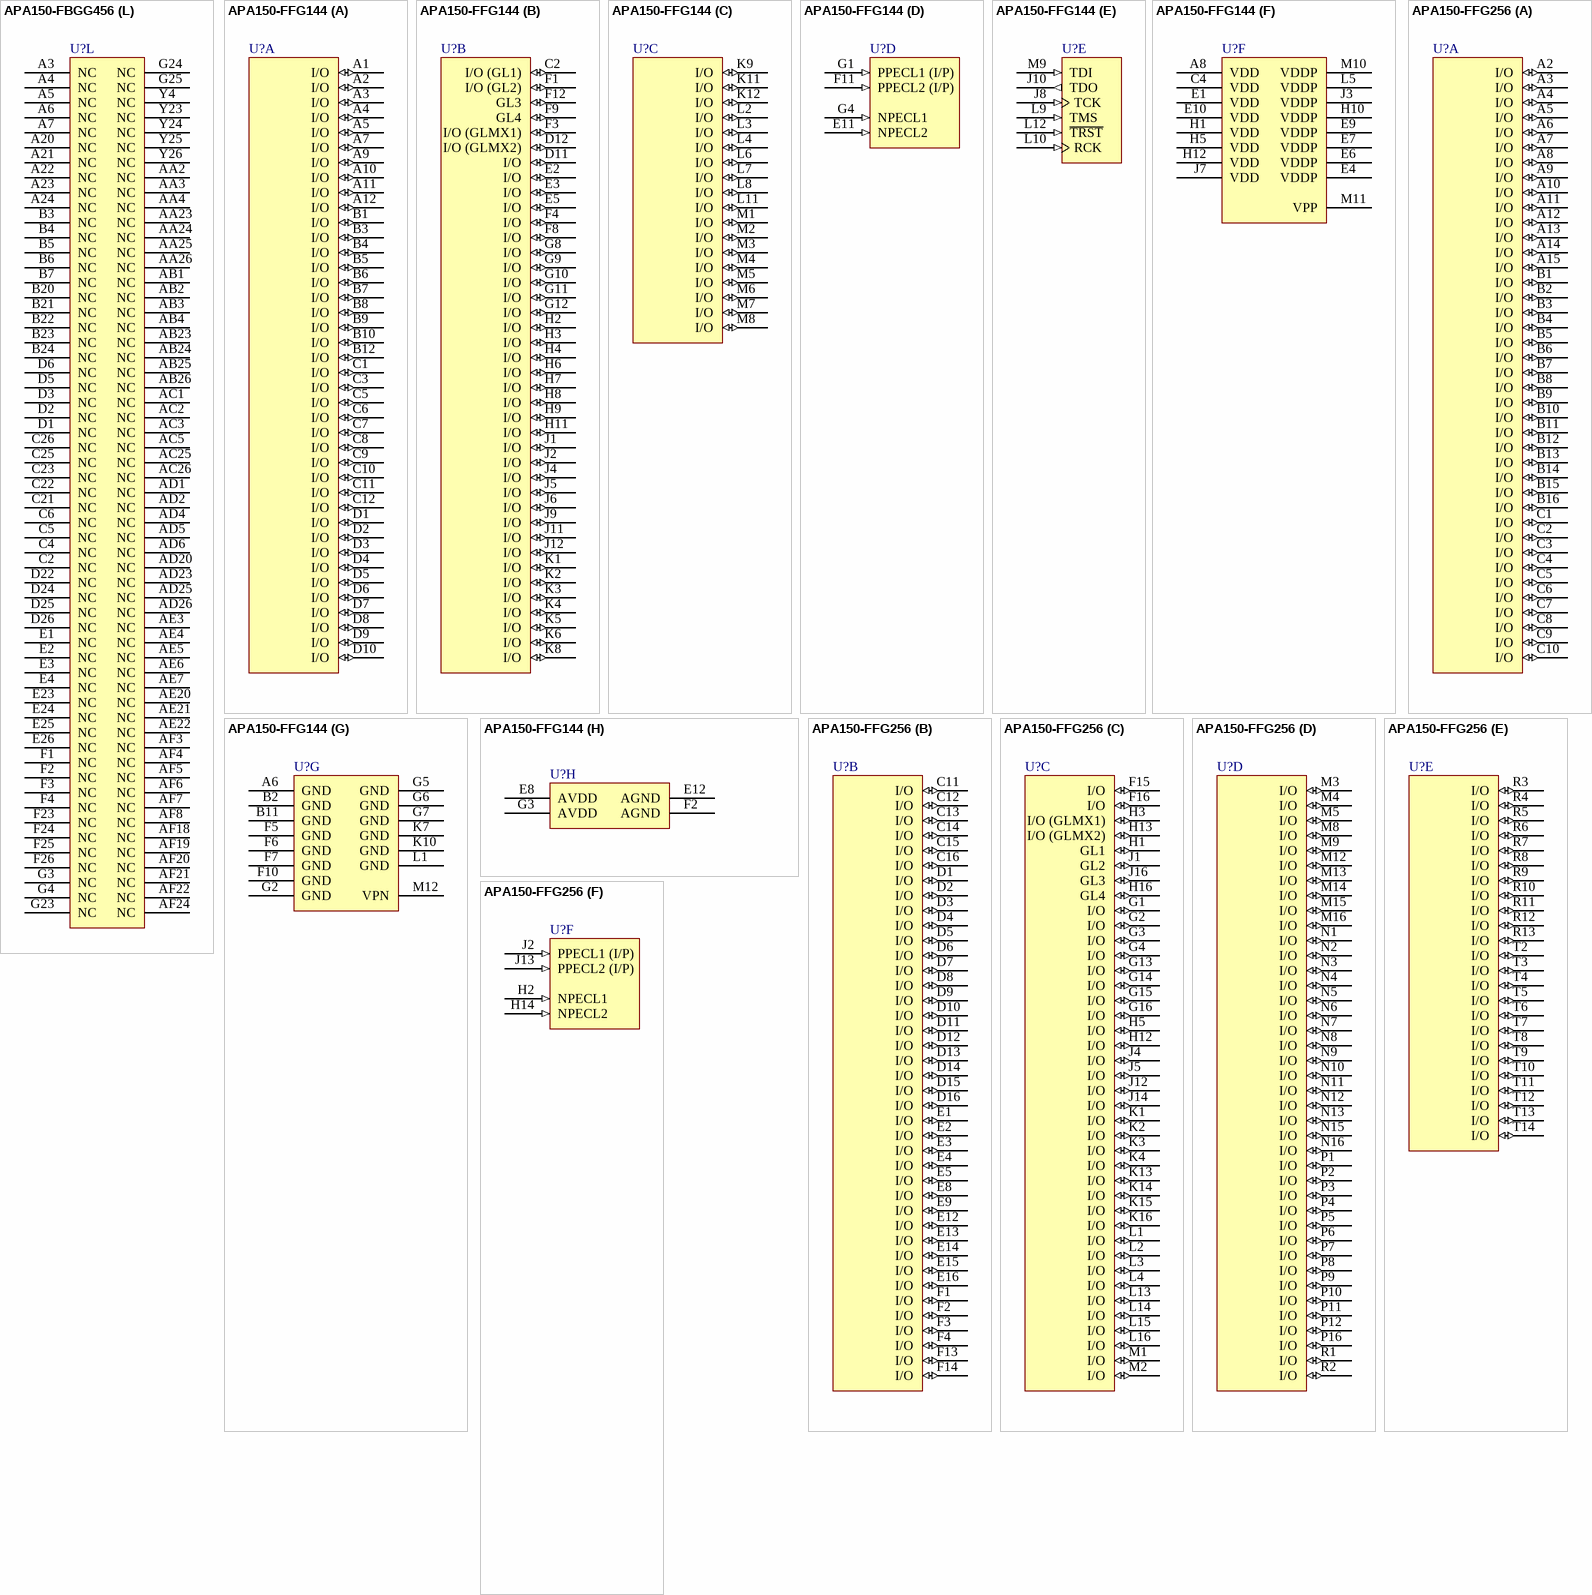
[diagram p18: symbols APA150-FBGG456 to APA150-FFG256]

## APA150-FBGG456
designator U?
ProASICPlus APA150 Flash FPGA, 242 User IOs, 456-Pin PBGA, Speed Grade F, Commercial Grade, Pb-Free; DatasheetVersion: v5.8, Jun-2009; PackageVersion: ver11.2, Nov-2009; PackageReference: BG456; PackageDescription: 456-Ball Plastic Ball Grid Array (BG456); Code_JEDEC: MS-034-BAR-2; ComponentLink1Description: Manufacturer URL; ComponentLink1URL: http://www.actel.com/; ComponentLink2Description: ProASIC PLUS Datasheet; ComponentLink2URL: http://www.actel.com/documents/ProASICPLUS_DS.pdf; ComponentLink3Description: Package Mechanical Drawings; ComponentLink3URL: http://www.actel.com/documents/PckgMechDrwngs.pdf; ComponentLink4Description: ProASIC PLUS Documents; ComponentLink4URL: http://www.actel.com/products/proasicplus/docs.aspx
footprint BG456 (BGA, 456-Leads, Body 35x35mm, Pitch 1.27mm)
part A pins: A8 I/O (io), A9 I/O (io), A10 I/O (io), A11 I/O (io), A12 I/O (io), A13 I/O (io), A14 I/O (io), A15 I/O (io), A16 I/O (io), A17 I/O (io), A18 I/O (io), A19 I/O (io), B8 I/O (io), B9 I/O (io), B10 I/O (io), B11 I/O (io), B12 I/O (io), B13 I/O (io), B14 I/O (io), B15 I/O (io), B16 I/O (io), B17 I/O (io), B18 I/O (io), B19 I/O (io), C7 I/O (io), C8 I/O (io), C9 I/O (io), C10 I/O (io), C11 I/O (io), C12 I/O (io), C13 I/O (io), C14 I/O (io), C15 I/O (io), C16 I/O (io), C17 I/O (io), C18 I/O (io), C19 I/O (io), C20 I/O (io), D7 I/O (io), D8 I/O (io)
part B pins: D9 I/O (io), D10 I/O (io), D11 I/O (io), D12 I/O (io), D13 I/O (io), D14 I/O (io), D15 I/O (io), D16 I/O (io), D17 I/O (io), D18 I/O (io), D19 I/O (io), D20 I/O (io), D21 I/O (io), E9 I/O (io), E10 I/O (io), E11 I/O (io), E12 I/O (io), E13 I/O (io), E14 I/O (io), E15 I/O (io), E16 I/O (io), E17 I/O (io), E18 I/O (io), E19 I/O (io), G1 I/O (io), G2 I/O (io), G26 I/O (io), H1 I/O (io), H2 I/O (io), H3 I/O (io), H4 I/O (io), H23 I/O (io), H24 I/O (io), H25 I/O (io), H26 I/O (io), J1 I/O (io), J2 I/O (io), J3 I/O (io), J4 I/O (io), J5 I/O (io)
part C pins: J22 I/O (io), J23 I/O (io), J24 I/O (io), J25 I/O (io), J26 I/O (io), K1 I/O (io), K2 I/O (io), K3 I/O (io), K4 I/O (io), K5 I/O (io), K22 I/O (io), K23 I/O (io), K24 I/O (io), K25 I/O (io), K26 I/O (io), L1 I/O (io), L2 I/O (io), L3 I/O (io), L4 I/O (io), L5 I/O (io), L22 I/O (io), L23 I/O (io), L24 I/O (io), L25 I/O (io), L26 I/O (io), M1 GL1 (io), M2 GL2 (io), M3 I/O (io), M4 I/O (io), M5 I/O (io), M22 GL4 (io), M23 I/O (io), M24 I/O (io), M25 I/O (io), M26 I/O (io), N1 I/O (io), N2 I/O (GLMX1) (io), N23 GL3 (io), N25 I/O (GLMX2) (io), P1 I/O (io)
part D pins: P2 I/O (io), P3 I/O (io), P4 I/O (io), P22 I/O (io), P23 I/O (io), P24 I/O (io), P25 I/O (io), R1 I/O (io), R2 I/O (io), R3 I/O (io), R4 I/O (io), R5 I/O (io), R22 I/O (io), R23 I/O (io), R24 I/O (io), R25 I/O (io), R26 I/O (io), T1 I/O (io), T2 I/O (io), T3 I/O (io), T4 I/O (io), T5 I/O (io), T22 I/O (io), T23 I/O (io), T24 I/O (io), T25 I/O (io), T26 I/O (io), U1 I/O (io), U2 I/O (io), U3 I/O (io), U4 I/O (io), U5 I/O (io), U22 I/O (io), U23 I/O (io), U24 I/O (io), U25 I/O (io), U26 I/O (io), V1 I/O (io), V2 I/O (io), V3 I/O (io)
part E pins: AA1 I/O (io), AB8 I/O (io), AB9 I/O (io), AB10 I/O (io), AB11 I/O (io), AB12 I/O (io), AB13 I/O (io), AB14 I/O (io), AB15 I/O (io), AB16 I/O (io), AB17 I/O (io), AB18 I/O (io), AB19 I/O (io), AC6 I/O (io), AC7 I/O (io), AC8 I/O (io), AC9 I/O (io), AC10 I/O (io), AC11 I/O (io), AC12 I/O (io), AC13 I/O (io), AC14 I/O (io), V4 I/O (io), V5 I/O (io), V22 I/O (io), V23 I/O (io), V24 I/O (io), V25 I/O (io), V26 I/O (io), W1 I/O (io), W2 I/O (io), W3 I/O (io), W4 I/O (io), W23 I/O (io), W24 I/O (io), W25 I/O (io), W26 I/O (io), Y1 I/O (io), Y2 I/O (io), Y3 I/O (io)
part F pins: AC15 I/O (io), AC16 I/O (io), AC17 I/O (io), AC18 I/O (io), AC19 I/O (io), AC20 I/O (io), AD7 I/O (io), AD8 I/O (io), AD9 I/O (io), AD10 I/O (io), AD11 I/O (io), AD12 I/O (io), AD13 I/O (io), AD14 I/O (io), AD15 I/O (io), AD16 I/O (io), AD17 I/O (io), AD18 I/O (io), AD19 I/O (io), AE8 I/O (io), AE9 I/O (io), AE10 I/O (io), AE11 I/O (io), AE12 I/O (io), AE13 I/O (io), AE14 I/O (io), AE15 I/O (io), AE16 I/O (io), AE17 I/O (io), AE18 I/O (io), AE19 I/O (io), AF9 I/O (io), AF10 I/O (io), AF11 I/O (io), AF12 I/O (io), AF13 I/O (io), AF14 I/O (io), AF15 I/O (io), AF16 I/O (io), AF17 I/O (io)
part G pins: N4 PPECL1 (I/P) (in), N22 NPECL2 (in), P5 NPECL1 (in), P26 PPECL2 (I/P) (in)
part H pins: AC21 TMS (in), AC22 TDO (out), AC24 RCK (in), AD21 TCK (in), AE24 ~{TRST} (in), AF23 TDI (in)
part I pins: A1 VDDP (power), A2 VDDP (power), A25 VDDP (power), A26 VDDP (power), AA5 VDD (power), AA22 VDD (power), AB5 VDD (power), AB6 VDD (power), AB7 VDD (power), AB20 VDD (power), AB21 VDD (power), AB22 VDD (power), AC4 VDDP (power), AC23 VDDP (power), AD3 VDDP (power), AD22 VPP (power), AD24 VDDP (power), AE1 VDDP (power), AE2 VDDP (power), AE25 VDDP (power), AE26 VDDP (power), AF1 VDDP (power), AF2 VDDP (power), AF25 VDDP (power), AF26 VDDP (power), B1 VDDP (power), B2 VDDP (power), B25 VDDP (power), B26 VDDP (power), C1 VDDP (power), C3 VDDP (power), C24 VDDP (power), D4 VDDP (power), D23 VDDP (power), E5 VDD (power), E6 VDD (power), E7 VDD (power), E8 VDD (power), E20 VDD (power), E21 VDD (power), E22 VDD (power), F5 VDD (power), F22 VDD (power), G5 VDD (power), G22 VDD (power), H5 VDD (power), H22 VDD (power), W5 VDD (power), W22 VDD (power), Y5 VDD (power), Y22 VDD (power)
part J pins: AE23 VPN (power), L11 GND (power), L12 GND (power), L13 GND (power), L14 GND (power), L15 GND (power), L16 GND (power), M11 GND (power), M12 GND (power), M13 GND (power), M14 GND (power), M15 GND (power), M16 GND (power), N11 GND (power), N12 GND (power), N13 GND (power), N14 GND (power), N15 GND (power), N16 GND (power), P11 GND (power), P12 GND (power), P13 GND (power), P14 GND (power), P15 GND (power), P16 GND (power), R11 GND (power), R12 GND (power), R13 GND (power), R14 GND (power), R15 GND (power), R16 GND (power), T11 GND (power), T12 GND (power), T13 GND (power), T14 GND (power), T15 GND (power), T16 GND (power)
part K pins: N3 AGND (power), N5 AVDD (power), N24 AVDD (power), N26 AGND (power)
part L pins: A3 NC, A4 NC, A5 NC, A6 NC, A7 NC, A20 NC, A21 NC, A22 NC, A23 NC, A24 NC, AA2 NC, AA3 NC, AA4 NC, AA23 NC, AA24 NC, AA25 NC, AA26 NC, AB1 NC, AB2 NC, AB3 NC, AB4 NC, AB23 NC, AB24 NC, AB25 NC, AB26 NC, AC1 NC, AC2 NC, AC3 NC, AC5 NC, AC25 NC, AC26 NC, AD1 NC, AD2 NC, AD4 NC, AD5 NC, AD6 NC, AD20 NC, AD23 NC, AD25 NC, AD26 NC, AE3 NC, AE4 NC, AE5 NC, AE6 NC, AE7 NC, AE20 NC, AE21 NC, AE22 NC, AF3 NC, AF4 NC, AF5 NC, AF6 NC, AF7 NC, AF8 NC, AF18 NC, AF19 NC, AF20 NC, AF21 NC, AF22 NC, AF24 NC, B3 NC, B4 NC, B5 NC, B6 NC, B7 NC, B20 NC, B21 NC, B22 NC, B23 NC, B24 NC, C2 NC, C4 NC, C5 NC, C6 NC, C21 NC, C22 NC, C23 NC, C25 NC, C26 NC, D1 NC, D2 NC, D3 NC, D5 NC, D6 NC, D22 NC, D24 NC, D25 NC, D26 NC, E1 NC, E2 NC, E3 NC, E4 NC, E23 NC, E24 NC, E25 NC, E26 NC, F1 NC, F2 NC, F3 NC, F4 NC, F23 NC, F24 NC, F25 NC, F26 NC, G3 NC, G4 NC, G23 NC, G24 NC, G25 NC, Y4 NC, Y23 NC, Y24 NC, Y25 NC, Y26 NC

## APA150-FFG144
designator U?
ProASICPlus APA150 Flash FPGA, 100 User IOs, 114-Pin FBGA, Speed Grade F, Commercial Grade; DatasheetVersion: v5.8, Jun-2009; PackageVersion: rev39, Aug-2010; PackageReference: FG144; PackageDescription: 144-Ball Fine Pitch Plastic Ball Grid Array (FG144); Code_JEDEC: MO-192-DAD-1; ComponentLink1Description: Manufacturer URL; ComponentLink1URL: http://www.actel.com/; ComponentLink2Description: ProASIC PLUS Datasheet; ComponentLink2URL: http://www.actel.com/documents/ProASICPLUS_DS.pdf; ComponentLink3Description: Package Mechanical Drawings; ComponentLink3URL: http://www.actel.com/documents/PckgMechDrwngs.pdf; ComponentLink4Description: ProASIC PLUS Documents; ComponentLink4URL: http://www.actel.com/products/proasicplus/docs.aspx
footprint FG144 (BGA, 144-Leads, Body 13x13mm, Pitch 1mm)
part A pins: A1 I/O (io), A2 I/O (io), A3 I/O (io), A4 I/O (io), A5 I/O (io), A7 I/O (io), A9 I/O (io), A10 I/O (io), A11 I/O (io), A12 I/O (io), B1 I/O (io), B3 I/O (io), B4 I/O (io), B5 I/O (io), B6 I/O (io), B7 I/O (io), B8 I/O (io), B9 I/O (io), B10 I/O (io), B12 I/O (io), C1 I/O (io), C3 I/O (io), C5 I/O (io), C6 I/O (io), C7 I/O (io), C8 I/O (io), C9 I/O (io), C10 I/O (io), C11 I/O (io), C12 I/O (io), D1 I/O (io), D2 I/O (io), D3 I/O (io), D4 I/O (io), D5 I/O (io), D6 I/O (io), D7 I/O (io), D8 I/O (io), D9 I/O (io), D10 I/O (io)
part B pins: C2 I/O (GL1) (io), D11 I/O (io), D12 I/O (GLMX2) (io), E2 I/O (io), E3 I/O (io), E5 I/O (io), F1 I/O (GL2) (io), F3 I/O (GLMX1) (io), F4 I/O (io), F8 I/O (io), F9 GL4 (io), F12 GL3 (io), G8 I/O (io), G9 I/O (io), G10 I/O (io), G11 I/O (io), G12 I/O (io), H2 I/O (io), H3 I/O (io), H4 I/O (io), H6 I/O (io), H7 I/O (io), H8 I/O (io), H9 I/O (io), H11 I/O (io), J1 I/O (io), J2 I/O (io), J4 I/O (io), J5 I/O (io), J6 I/O (io), J9 I/O (io), J11 I/O (io), J12 I/O (io), K1 I/O (io), K2 I/O (io), K3 I/O (io), K4 I/O (io), K5 I/O (io), K6 I/O (io), K8 I/O (io)
part C pins: K9 I/O (io), K11 I/O (io), K12 I/O (io), L2 I/O (io), L3 I/O (io), L4 I/O (io), L6 I/O (io), L7 I/O (io), L8 I/O (io), L11 I/O (io), M1 I/O (io), M2 I/O (io), M3 I/O (io), M4 I/O (io), M5 I/O (io), M6 I/O (io), M7 I/O (io), M8 I/O (io)
part D pins: E11 NPECL2 (in), F11 PPECL2 (I/P) (in), G1 PPECL1 (I/P) (in), G4 NPECL1 (in)
part E pins: J8 TCK (in), J10 TDO (out), L9 TMS (in), L10 RCK (in), L12 ~{TRST} (in), M9 TDI (in)
part F pins: A8 VDD (power), C4 VDD (power), E1 VDD (power), E4 VDDP (power), E6 VDDP (power), E7 VDDP (power), E9 VDDP (power), E10 VDD (power), H1 VDD (power), H5 VDD (power), H10 VDDP (power), H12 VDD (power), J3 VDDP (power), J7 VDD (power), L5 VDDP (power), M10 VDDP (power), M11 VPP (power)
part G pins: A6 GND (power), B2 GND (power), B11 GND (power), F5 GND (power), F6 GND (power), F7 GND (power), F10 GND (power), G2 GND (power), G5 GND (power), G6 GND (power), G7 GND (power), K7 GND (power), K10 GND (power), L1 GND (power), M12 VPN (power)
part H pins: E8 AVDD (power), E12 AGND (power), F2 AGND (power), G3 AVDD (power)

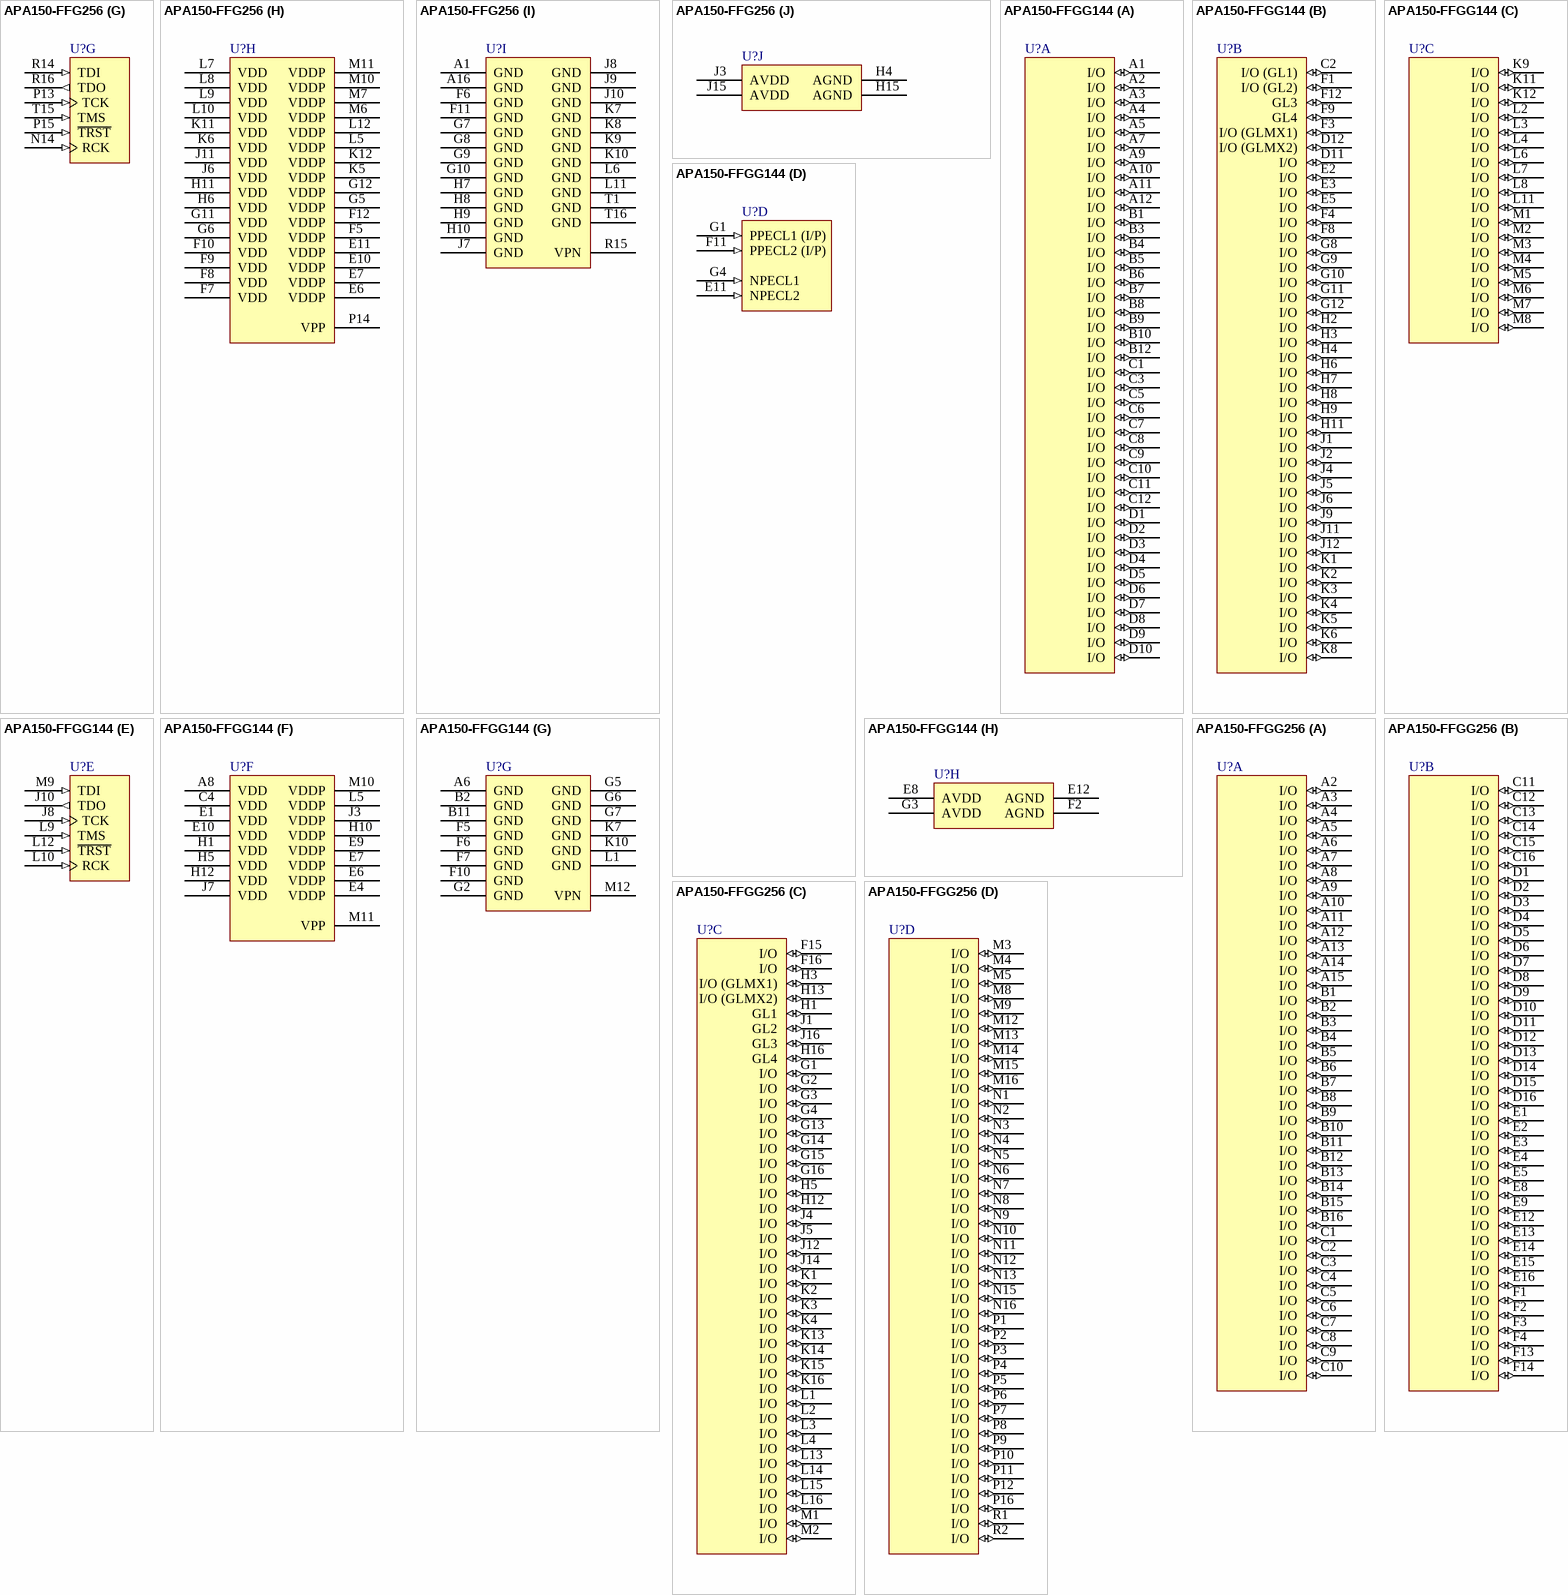
[diagram p19: symbols APA150-FFG256 to APA150-FFGG256]

## APA150-FFG256
designator U?
ProASICPlus APA150 Flash FPGA, 186 User IOs, 256-Pin FBGA, Speed Grade F, Commercial Grade; DatasheetVersion: v5.8, Jun-2009; PackageVersion: rev39, Aug-2010; PackageReference: FG256; PackageDescription: 256-Ball Fine Pitch Plastic Ball Grid Array 1.00 mm Pitch (FG256); Code_JEDEC: MO-192-DAF-1; ComponentLink1Description: Manufacturer URL; ComponentLink1URL: http://www.actel.com/; ComponentLink2Description: ProASIC PLUS Datasheet; ComponentLink2URL: http://www.actel.com/documents/ProASICPLUS_DS.pdf; ComponentLink3Description: Package Mechanical Drawings; ComponentLink3URL: http://www.actel.com/documents/PckgMechDrwngs.pdf; ComponentLink4Description: ProASIC PLUS Documents; ComponentLink4URL: http://www.actel.com/products/proasicplus/docs.aspx
footprint FG256 (BGA, 256-Leads, Body 17x17mm, Pitch 1mm)
part A pins: A2 I/O (io), A3 I/O (io), A4 I/O (io), A5 I/O (io), A6 I/O (io), A7 I/O (io), A8 I/O (io), A9 I/O (io), A10 I/O (io), A11 I/O (io), A12 I/O (io), A13 I/O (io), A14 I/O (io), A15 I/O (io), B1 I/O (io), B2 I/O (io), B3 I/O (io), B4 I/O (io), B5 I/O (io), B6 I/O (io), B7 I/O (io), B8 I/O (io), B9 I/O (io), B10 I/O (io), B11 I/O (io), B12 I/O (io), B13 I/O (io), B14 I/O (io), B15 I/O (io), B16 I/O (io), C1 I/O (io), C2 I/O (io), C3 I/O (io), C4 I/O (io), C5 I/O (io), C6 I/O (io), C7 I/O (io), C8 I/O (io), C9 I/O (io), C10 I/O (io)
part B pins: C11 I/O (io), C12 I/O (io), C13 I/O (io), C14 I/O (io), C15 I/O (io), C16 I/O (io), D1 I/O (io), D2 I/O (io), D3 I/O (io), D4 I/O (io), D5 I/O (io), D6 I/O (io), D7 I/O (io), D8 I/O (io), D9 I/O (io), D10 I/O (io), D11 I/O (io), D12 I/O (io), D13 I/O (io), D14 I/O (io), D15 I/O (io), D16 I/O (io), E1 I/O (io), E2 I/O (io), E3 I/O (io), E4 I/O (io), E5 I/O (io), E8 I/O (io), E9 I/O (io), E12 I/O (io), E13 I/O (io), E14 I/O (io), E15 I/O (io), E16 I/O (io), F1 I/O (io), F2 I/O (io), F3 I/O (io), F4 I/O (io), F13 I/O (io), F14 I/O (io)
part C pins: F15 I/O (io), F16 I/O (io), G1 I/O (io), G2 I/O (io), G3 I/O (io), G4 I/O (io), G13 I/O (io), G14 I/O (io), G15 I/O (io), G16 I/O (io), H1 GL1 (io), H3 I/O (GLMX1) (io), H5 I/O (io), H12 I/O (io), H13 I/O (GLMX2) (io), H16 GL4 (io), J1 GL2 (io), J4 I/O (io), J5 I/O (io), J12 I/O (io), J14 I/O (io), J16 GL3 (io), K1 I/O (io), K2 I/O (io), K3 I/O (io), K4 I/O (io), K13 I/O (io), K14 I/O (io), K15 I/O (io), K16 I/O (io), L1 I/O (io), L2 I/O (io), L3 I/O (io), L4 I/O (io), L13 I/O (io), L14 I/O (io), L15 I/O (io), L16 I/O (io), M1 I/O (io), M2 I/O (io)
part D pins: M3 I/O (io), M4 I/O (io), M5 I/O (io), M8 I/O (io), M9 I/O (io), M12 I/O (io), M13 I/O (io), M14 I/O (io), M15 I/O (io), M16 I/O (io), N1 I/O (io), N2 I/O (io), N3 I/O (io), N4 I/O (io), N5 I/O (io), N6 I/O (io), N7 I/O (io), N8 I/O (io), N9 I/O (io), N10 I/O (io), N11 I/O (io), N12 I/O (io), N13 I/O (io), N15 I/O (io), N16 I/O (io), P1 I/O (io), P2 I/O (io), P3 I/O (io), P4 I/O (io), P5 I/O (io), P6 I/O (io), P7 I/O (io), P8 I/O (io), P9 I/O (io), P10 I/O (io), P11 I/O (io), P12 I/O (io), P16 I/O (io), R1 I/O (io), R2 I/O (io)
part E pins: R3 I/O (io), R4 I/O (io), R5 I/O (io), R6 I/O (io), R7 I/O (io), R8 I/O (io), R9 I/O (io), R10 I/O (io), R11 I/O (io), R12 I/O (io), R13 I/O (io), T2 I/O (io), T3 I/O (io), T4 I/O (io), T5 I/O (io), T6 I/O (io), T7 I/O (io), T8 I/O (io), T9 I/O (io), T10 I/O (io), T11 I/O (io), T12 I/O (io), T13 I/O (io), T14 I/O (io)
part F pins: H2 NPECL1 (in), H14 NPECL2 (in), J2 PPECL1 (I/P) (in), J13 PPECL2 (I/P) (in)
part G pins: N14 RCK (in), P13 TCK (in), P15 ~{TRST} (in), R14 TDI (in), R16 TDO (out), T15 TMS (in)
part H pins: E6 VDDP (power), E7 VDDP (power), E10 VDDP (power), E11 VDDP (power), F5 VDDP (power), F7 VDD (power), F8 VDD (power), F9 VDD (power), F10 VDD (power), F12 VDDP (power), G5 VDDP (power), G6 VDD (power), G11 VDD (power), G12 VDDP (power), H6 VDD (power), H11 VDD (power), J6 VDD (power), J11 VDD (power), K5 VDDP (power), K6 VDD (power), K11 VDD (power), K12 VDDP (power), L5 VDDP (power), L7 VDD (power), L8 VDD (power), L9 VDD (power), L10 VDD (power), L12 VDDP (power), M6 VDDP (power), M7 VDDP (power), M10 VDDP (power), M11 VDDP (power), P14 VPP (power)
part I pins: A1 GND (power), A16 GND (power), F6 GND (power), F11 GND (power), G7 GND (power), G8 GND (power), G9 GND (power), G10 GND (power), H7 GND (power), H8 GND (power), H9 GND (power), H10 GND (power), J7 GND (power), J8 GND (power), J9 GND (power), J10 GND (power), K7 GND (power), K8 GND (power), K9 GND (power), K10 GND (power), L6 GND (power), L11 GND (power), R15 VPN (power), T1 GND (power), T16 GND (power)
part J pins: H4 AGND (power), H15 AGND (power), J3 AVDD (power), J15 AVDD (power)

## APA150-FFGG144
designator U?
ProASICPlus APA150 Flash FPGA, 100 User IOs, 114-Pin FBGA, Speed Grade F, Commercial Grade, Pb-Free; DatasheetVersion: v5.8, Jun-2009; PackageVersion: rev39, Aug-2010; PackageReference: FG144; PackageDescription: 144-Ball Fine Pitch Plastic Ball Grid Array (FG144); Code_JEDEC: MO-192-DAD-1; ComponentLink1Description: Manufacturer URL; ComponentLink1URL: http://www.actel.com/; ComponentLink2Description: ProASIC PLUS Datasheet; ComponentLink2URL: http://www.actel.com/documents/ProASICPLUS_DS.pdf; ComponentLink3Description: Package Mechanical Drawings; ComponentLink3URL: http://www.actel.com/documents/PckgMechDrwngs.pdf; ComponentLink4Description: ProASIC PLUS Documents; ComponentLink4URL: http://www.actel.com/products/proasicplus/docs.aspx
footprint FG144 (BGA, 144-Leads, Body 13x13mm, Pitch 1mm)
part A pins: A1 I/O (io), A2 I/O (io), A3 I/O (io), A4 I/O (io), A5 I/O (io), A7 I/O (io), A9 I/O (io), A10 I/O (io), A11 I/O (io), A12 I/O (io), B1 I/O (io), B3 I/O (io), B4 I/O (io), B5 I/O (io), B6 I/O (io), B7 I/O (io), B8 I/O (io), B9 I/O (io), B10 I/O (io), B12 I/O (io), C1 I/O (io), C3 I/O (io), C5 I/O (io), C6 I/O (io), C7 I/O (io), C8 I/O (io), C9 I/O (io), C10 I/O (io), C11 I/O (io), C12 I/O (io), D1 I/O (io), D2 I/O (io), D3 I/O (io), D4 I/O (io), D5 I/O (io), D6 I/O (io), D7 I/O (io), D8 I/O (io), D9 I/O (io), D10 I/O (io)
part B pins: C2 I/O (GL1) (io), D11 I/O (io), D12 I/O (GLMX2) (io), E2 I/O (io), E3 I/O (io), E5 I/O (io), F1 I/O (GL2) (io), F3 I/O (GLMX1) (io), F4 I/O (io), F8 I/O (io), F9 GL4 (io), F12 GL3 (io), G8 I/O (io), G9 I/O (io), G10 I/O (io), G11 I/O (io), G12 I/O (io), H2 I/O (io), H3 I/O (io), H4 I/O (io), H6 I/O (io), H7 I/O (io), H8 I/O (io), H9 I/O (io), H11 I/O (io), J1 I/O (io), J2 I/O (io), J4 I/O (io), J5 I/O (io), J6 I/O (io), J9 I/O (io), J11 I/O (io), J12 I/O (io), K1 I/O (io), K2 I/O (io), K3 I/O (io), K4 I/O (io), K5 I/O (io), K6 I/O (io), K8 I/O (io)
part C pins: K9 I/O (io), K11 I/O (io), K12 I/O (io), L2 I/O (io), L3 I/O (io), L4 I/O (io), L6 I/O (io), L7 I/O (io), L8 I/O (io), L11 I/O (io), M1 I/O (io), M2 I/O (io), M3 I/O (io), M4 I/O (io), M5 I/O (io), M6 I/O (io), M7 I/O (io), M8 I/O (io)
part D pins: E11 NPECL2 (in), F11 PPECL2 (I/P) (in), G1 PPECL1 (I/P) (in), G4 NPECL1 (in)
part E pins: J8 TCK (in), J10 TDO (out), L9 TMS (in), L10 RCK (in), L12 ~{TRST} (in), M9 TDI (in)
part F pins: A8 VDD (power), C4 VDD (power), E1 VDD (power), E4 VDDP (power), E6 VDDP (power), E7 VDDP (power), E9 VDDP (power), E10 VDD (power), H1 VDD (power), H5 VDD (power), H10 VDDP (power), H12 VDD (power), J3 VDDP (power), J7 VDD (power), L5 VDDP (power), M10 VDDP (power), M11 VPP (power)
part G pins: A6 GND (power), B2 GND (power), B11 GND (power), F5 GND (power), F6 GND (power), F7 GND (power), F10 GND (power), G2 GND (power), G5 GND (power), G6 GND (power), G7 GND (power), K7 GND (power), K10 GND (power), L1 GND (power), M12 VPN (power)
part H pins: E8 AVDD (power), E12 AGND (power), F2 AGND (power), G3 AVDD (power)

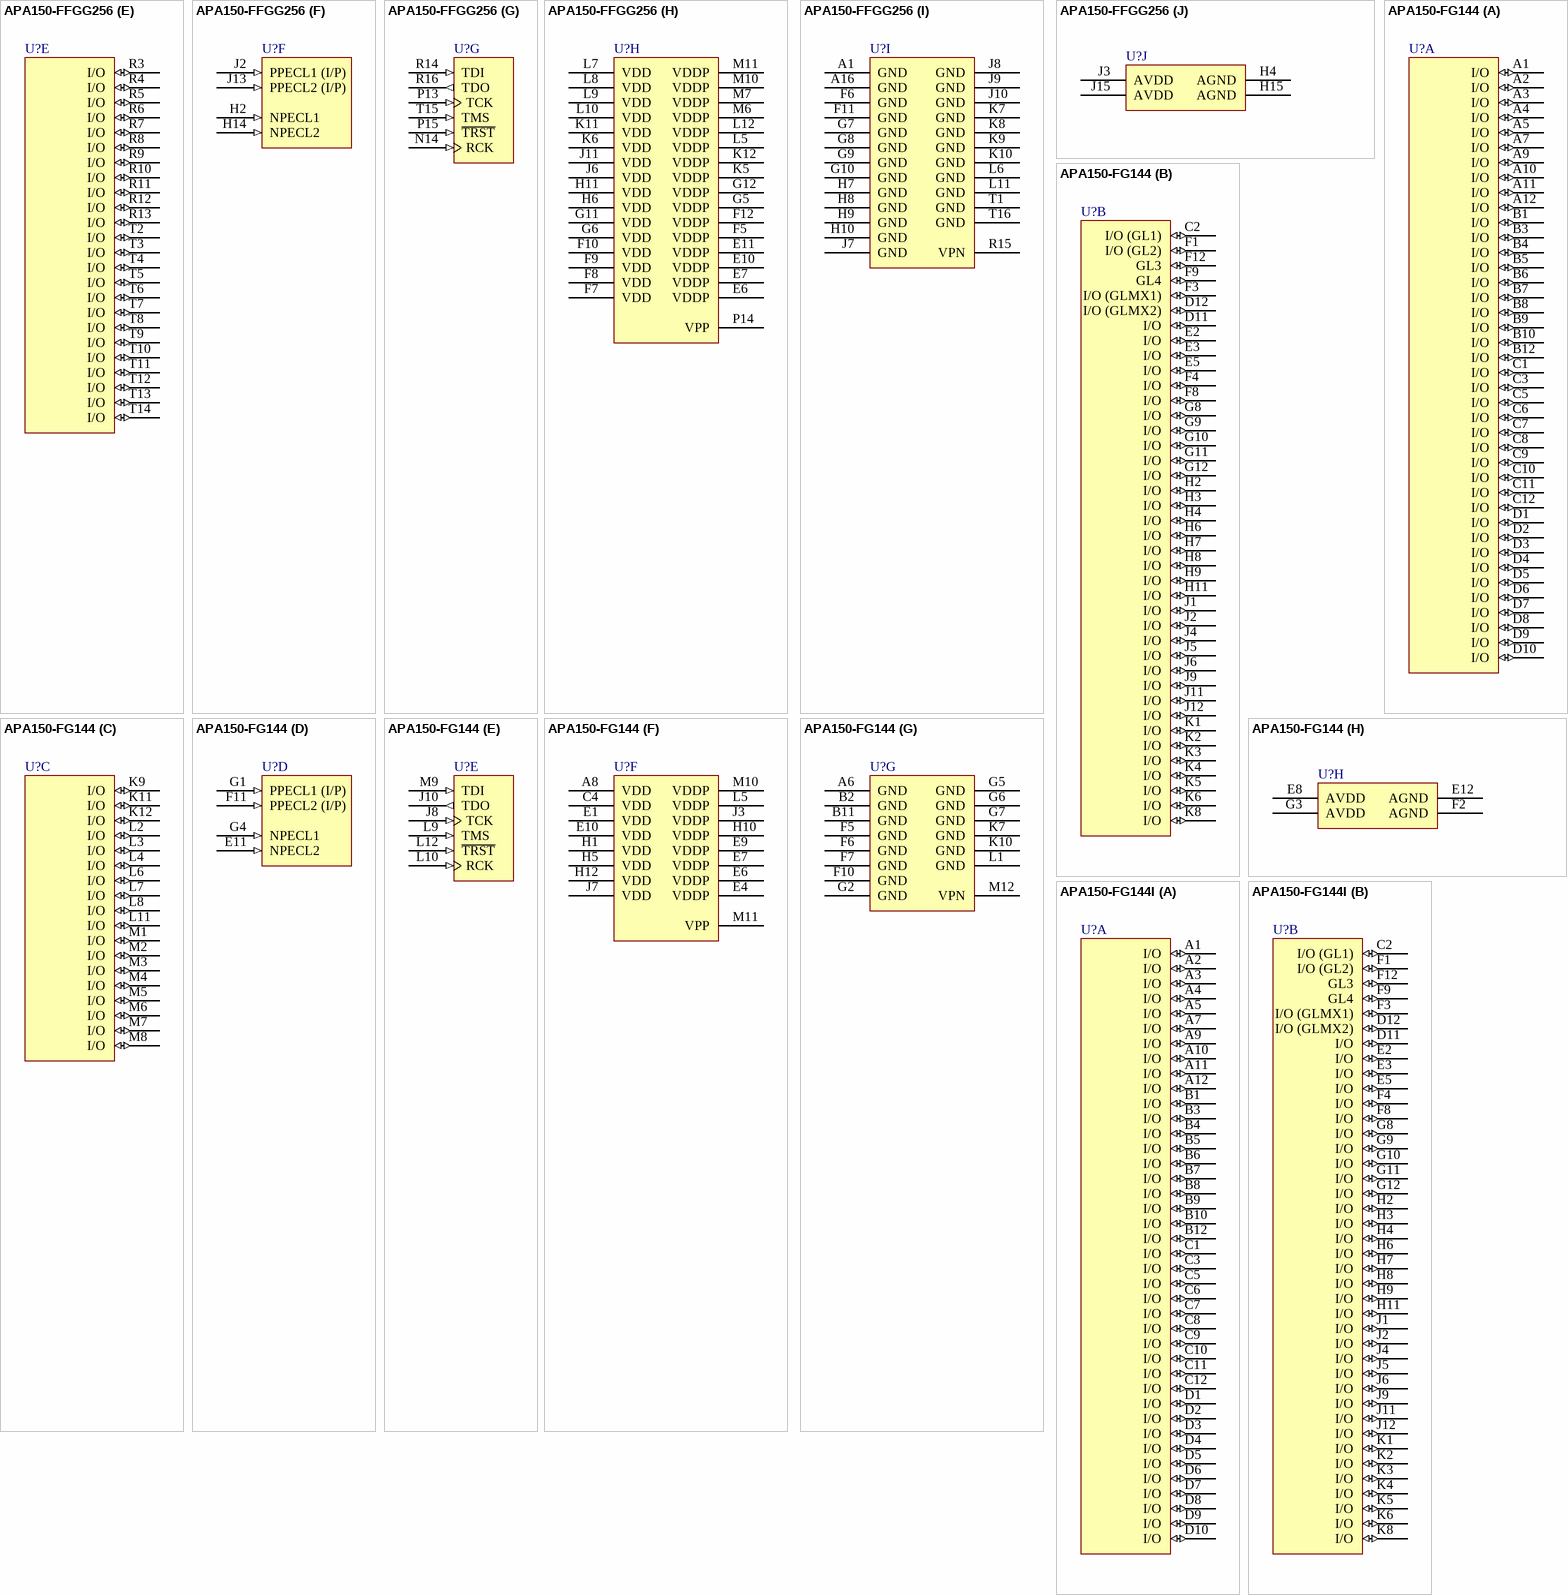
[diagram p20: symbols APA150-FFGG256 to APA150-FG144I]

## APA150-FFGG256
designator U?
ProASICPlus APA150 Flash FPGA, 186 User IOs, 256-Pin FBGA, Speed Grade F, Commercial Grade, Pb-Free; DatasheetVersion: v5.8, Jun-2009; PackageVersion: rev39, Aug-2010; PackageReference: FG256; PackageDescription: 256-Ball Fine Pitch Plastic Ball Grid Array 1.00 mm Pitch (FG256); Code_JEDEC: MO-192-DAF-1; ComponentLink1Description: Manufacturer URL; ComponentLink1URL: http://www.actel.com/; ComponentLink2Description: ProASIC PLUS Datasheet; ComponentLink2URL: http://www.actel.com/documents/ProASICPLUS_DS.pdf; ComponentLink3Description: Package Mechanical Drawings; ComponentLink3URL: http://www.actel.com/documents/PckgMechDrwngs.pdf; ComponentLink4Description: ProASIC PLUS Documents; ComponentLink4URL: http://www.actel.com/products/proasicplus/docs.aspx
footprint FG256 (BGA, 256-Leads, Body 17x17mm, Pitch 1mm)
part A pins: A2 I/O (io), A3 I/O (io), A4 I/O (io), A5 I/O (io), A6 I/O (io), A7 I/O (io), A8 I/O (io), A9 I/O (io), A10 I/O (io), A11 I/O (io), A12 I/O (io), A13 I/O (io), A14 I/O (io), A15 I/O (io), B1 I/O (io), B2 I/O (io), B3 I/O (io), B4 I/O (io), B5 I/O (io), B6 I/O (io), B7 I/O (io), B8 I/O (io), B9 I/O (io), B10 I/O (io), B11 I/O (io), B12 I/O (io), B13 I/O (io), B14 I/O (io), B15 I/O (io), B16 I/O (io), C1 I/O (io), C2 I/O (io), C3 I/O (io), C4 I/O (io), C5 I/O (io), C6 I/O (io), C7 I/O (io), C8 I/O (io), C9 I/O (io), C10 I/O (io)
part B pins: C11 I/O (io), C12 I/O (io), C13 I/O (io), C14 I/O (io), C15 I/O (io), C16 I/O (io), D1 I/O (io), D2 I/O (io), D3 I/O (io), D4 I/O (io), D5 I/O (io), D6 I/O (io), D7 I/O (io), D8 I/O (io), D9 I/O (io), D10 I/O (io), D11 I/O (io), D12 I/O (io), D13 I/O (io), D14 I/O (io), D15 I/O (io), D16 I/O (io), E1 I/O (io), E2 I/O (io), E3 I/O (io), E4 I/O (io), E5 I/O (io), E8 I/O (io), E9 I/O (io), E12 I/O (io), E13 I/O (io), E14 I/O (io), E15 I/O (io), E16 I/O (io), F1 I/O (io), F2 I/O (io), F3 I/O (io), F4 I/O (io), F13 I/O (io), F14 I/O (io)
part C pins: F15 I/O (io), F16 I/O (io), G1 I/O (io), G2 I/O (io), G3 I/O (io), G4 I/O (io), G13 I/O (io), G14 I/O (io), G15 I/O (io), G16 I/O (io), H1 GL1 (io), H3 I/O (GLMX1) (io), H5 I/O (io), H12 I/O (io), H13 I/O (GLMX2) (io), H16 GL4 (io), J1 GL2 (io), J4 I/O (io), J5 I/O (io), J12 I/O (io), J14 I/O (io), J16 GL3 (io), K1 I/O (io), K2 I/O (io), K3 I/O (io), K4 I/O (io), K13 I/O (io), K14 I/O (io), K15 I/O (io), K16 I/O (io), L1 I/O (io), L2 I/O (io), L3 I/O (io), L4 I/O (io), L13 I/O (io), L14 I/O (io), L15 I/O (io), L16 I/O (io), M1 I/O (io), M2 I/O (io)
part D pins: M3 I/O (io), M4 I/O (io), M5 I/O (io), M8 I/O (io), M9 I/O (io), M12 I/O (io), M13 I/O (io), M14 I/O (io), M15 I/O (io), M16 I/O (io), N1 I/O (io), N2 I/O (io), N3 I/O (io), N4 I/O (io), N5 I/O (io), N6 I/O (io), N7 I/O (io), N8 I/O (io), N9 I/O (io), N10 I/O (io), N11 I/O (io), N12 I/O (io), N13 I/O (io), N15 I/O (io), N16 I/O (io), P1 I/O (io), P2 I/O (io), P3 I/O (io), P4 I/O (io), P5 I/O (io), P6 I/O (io), P7 I/O (io), P8 I/O (io), P9 I/O (io), P10 I/O (io), P11 I/O (io), P12 I/O (io), P16 I/O (io), R1 I/O (io), R2 I/O (io)
part E pins: R3 I/O (io), R4 I/O (io), R5 I/O (io), R6 I/O (io), R7 I/O (io), R8 I/O (io), R9 I/O (io), R10 I/O (io), R11 I/O (io), R12 I/O (io), R13 I/O (io), T2 I/O (io), T3 I/O (io), T4 I/O (io), T5 I/O (io), T6 I/O (io), T7 I/O (io), T8 I/O (io), T9 I/O (io), T10 I/O (io), T11 I/O (io), T12 I/O (io), T13 I/O (io), T14 I/O (io)
part F pins: H2 NPECL1 (in), H14 NPECL2 (in), J2 PPECL1 (I/P) (in), J13 PPECL2 (I/P) (in)
part G pins: N14 RCK (in), P13 TCK (in), P15 ~{TRST} (in), R14 TDI (in), R16 TDO (out), T15 TMS (in)
part H pins: E6 VDDP (power), E7 VDDP (power), E10 VDDP (power), E11 VDDP (power), F5 VDDP (power), F7 VDD (power), F8 VDD (power), F9 VDD (power), F10 VDD (power), F12 VDDP (power), G5 VDDP (power), G6 VDD (power), G11 VDD (power), G12 VDDP (power), H6 VDD (power), H11 VDD (power), J6 VDD (power), J11 VDD (power), K5 VDDP (power), K6 VDD (power), K11 VDD (power), K12 VDDP (power), L5 VDDP (power), L7 VDD (power), L8 VDD (power), L9 VDD (power), L10 VDD (power), L12 VDDP (power), M6 VDDP (power), M7 VDDP (power), M10 VDDP (power), M11 VDDP (power), P14 VPP (power)
part I pins: A1 GND (power), A16 GND (power), F6 GND (power), F11 GND (power), G7 GND (power), G8 GND (power), G9 GND (power), G10 GND (power), H7 GND (power), H8 GND (power), H9 GND (power), H10 GND (power), J7 GND (power), J8 GND (power), J9 GND (power), J10 GND (power), K7 GND (power), K8 GND (power), K9 GND (power), K10 GND (power), L6 GND (power), L11 GND (power), R15 VPN (power), T1 GND (power), T16 GND (power)
part J pins: H4 AGND (power), H15 AGND (power), J3 AVDD (power), J15 AVDD (power)

## APA150-FG144
designator U?
ProASICPlus APA150 Flash FPGA, 100 User IOs, 114-Pin FBGA, Speed Grade Standard, Commercial Grade; DatasheetVersion: v5.9, Jan-2010; PackageVersion: rev39, Aug-2010; PackageReference: FG144; PackageDescription: 144-Ball Fine Pitch Plastic Ball Grid Array (FG144); Code_JEDEC: MO-192-DAD-1; ComponentLink1Description: Manufacturer URL; ComponentLink1URL: http://www.actel.com/; ComponentLink2Description: ProASIC PLUS Datasheet; ComponentLink2URL: http://www.actel.com/documents/ProASICPLUS_DS.pdf; ComponentLink3Description: Package Mechanical Drawings; ComponentLink3URL: http://www.actel.com/documents/PckgMechDrwngs.pdf; ComponentLink4Description: ProASIC PLUS Documents; ComponentLink4URL: http://www.actel.com/products/proasicplus/docs.aspx
footprint FG144 (BGA, 144-Leads, Body 13x13mm, Pitch 1mm)
part A pins: A1 I/O (io), A2 I/O (io), A3 I/O (io), A4 I/O (io), A5 I/O (io), A7 I/O (io), A9 I/O (io), A10 I/O (io), A11 I/O (io), A12 I/O (io), B1 I/O (io), B3 I/O (io), B4 I/O (io), B5 I/O (io), B6 I/O (io), B7 I/O (io), B8 I/O (io), B9 I/O (io), B10 I/O (io), B12 I/O (io), C1 I/O (io), C3 I/O (io), C5 I/O (io), C6 I/O (io), C7 I/O (io), C8 I/O (io), C9 I/O (io), C10 I/O (io), C11 I/O (io), C12 I/O (io), D1 I/O (io), D2 I/O (io), D3 I/O (io), D4 I/O (io), D5 I/O (io), D6 I/O (io), D7 I/O (io), D8 I/O (io), D9 I/O (io), D10 I/O (io)
part B pins: C2 I/O (GL1) (io), D11 I/O (io), D12 I/O (GLMX2) (io), E2 I/O (io), E3 I/O (io), E5 I/O (io), F1 I/O (GL2) (io), F3 I/O (GLMX1) (io), F4 I/O (io), F8 I/O (io), F9 GL4 (io), F12 GL3 (io), G8 I/O (io), G9 I/O (io), G10 I/O (io), G11 I/O (io), G12 I/O (io), H2 I/O (io), H3 I/O (io), H4 I/O (io), H6 I/O (io), H7 I/O (io), H8 I/O (io), H9 I/O (io), H11 I/O (io), J1 I/O (io), J2 I/O (io), J4 I/O (io), J5 I/O (io), J6 I/O (io), J9 I/O (io), J11 I/O (io), J12 I/O (io), K1 I/O (io), K2 I/O (io), K3 I/O (io), K4 I/O (io), K5 I/O (io), K6 I/O (io), K8 I/O (io)
part C pins: K9 I/O (io), K11 I/O (io), K12 I/O (io), L2 I/O (io), L3 I/O (io), L4 I/O (io), L6 I/O (io), L7 I/O (io), L8 I/O (io), L11 I/O (io), M1 I/O (io), M2 I/O (io), M3 I/O (io), M4 I/O (io), M5 I/O (io), M6 I/O (io), M7 I/O (io), M8 I/O (io)
part D pins: E11 NPECL2 (in), F11 PPECL2 (I/P) (in), G1 PPECL1 (I/P) (in), G4 NPECL1 (in)
part E pins: J8 TCK (in), J10 TDO (out), L9 TMS (in), L10 RCK (in), L12 ~{TRST} (in), M9 TDI (in)
part F pins: A8 VDD (power), C4 VDD (power), E1 VDD (power), E4 VDDP (power), E6 VDDP (power), E7 VDDP (power), E9 VDDP (power), E10 VDD (power), H1 VDD (power), H5 VDD (power), H10 VDDP (power), H12 VDD (power), J3 VDDP (power), J7 VDD (power), L5 VDDP (power), M10 VDDP (power), M11 VPP (power)
part G pins: A6 GND (power), B2 GND (power), B11 GND (power), F5 GND (power), F6 GND (power), F7 GND (power), F10 GND (power), G2 GND (power), G5 GND (power), G6 GND (power), G7 GND (power), K7 GND (power), K10 GND (power), L1 GND (power), M12 VPN (power)
part H pins: E8 AVDD (power), E12 AGND (power), F2 AGND (power), G3 AVDD (power)

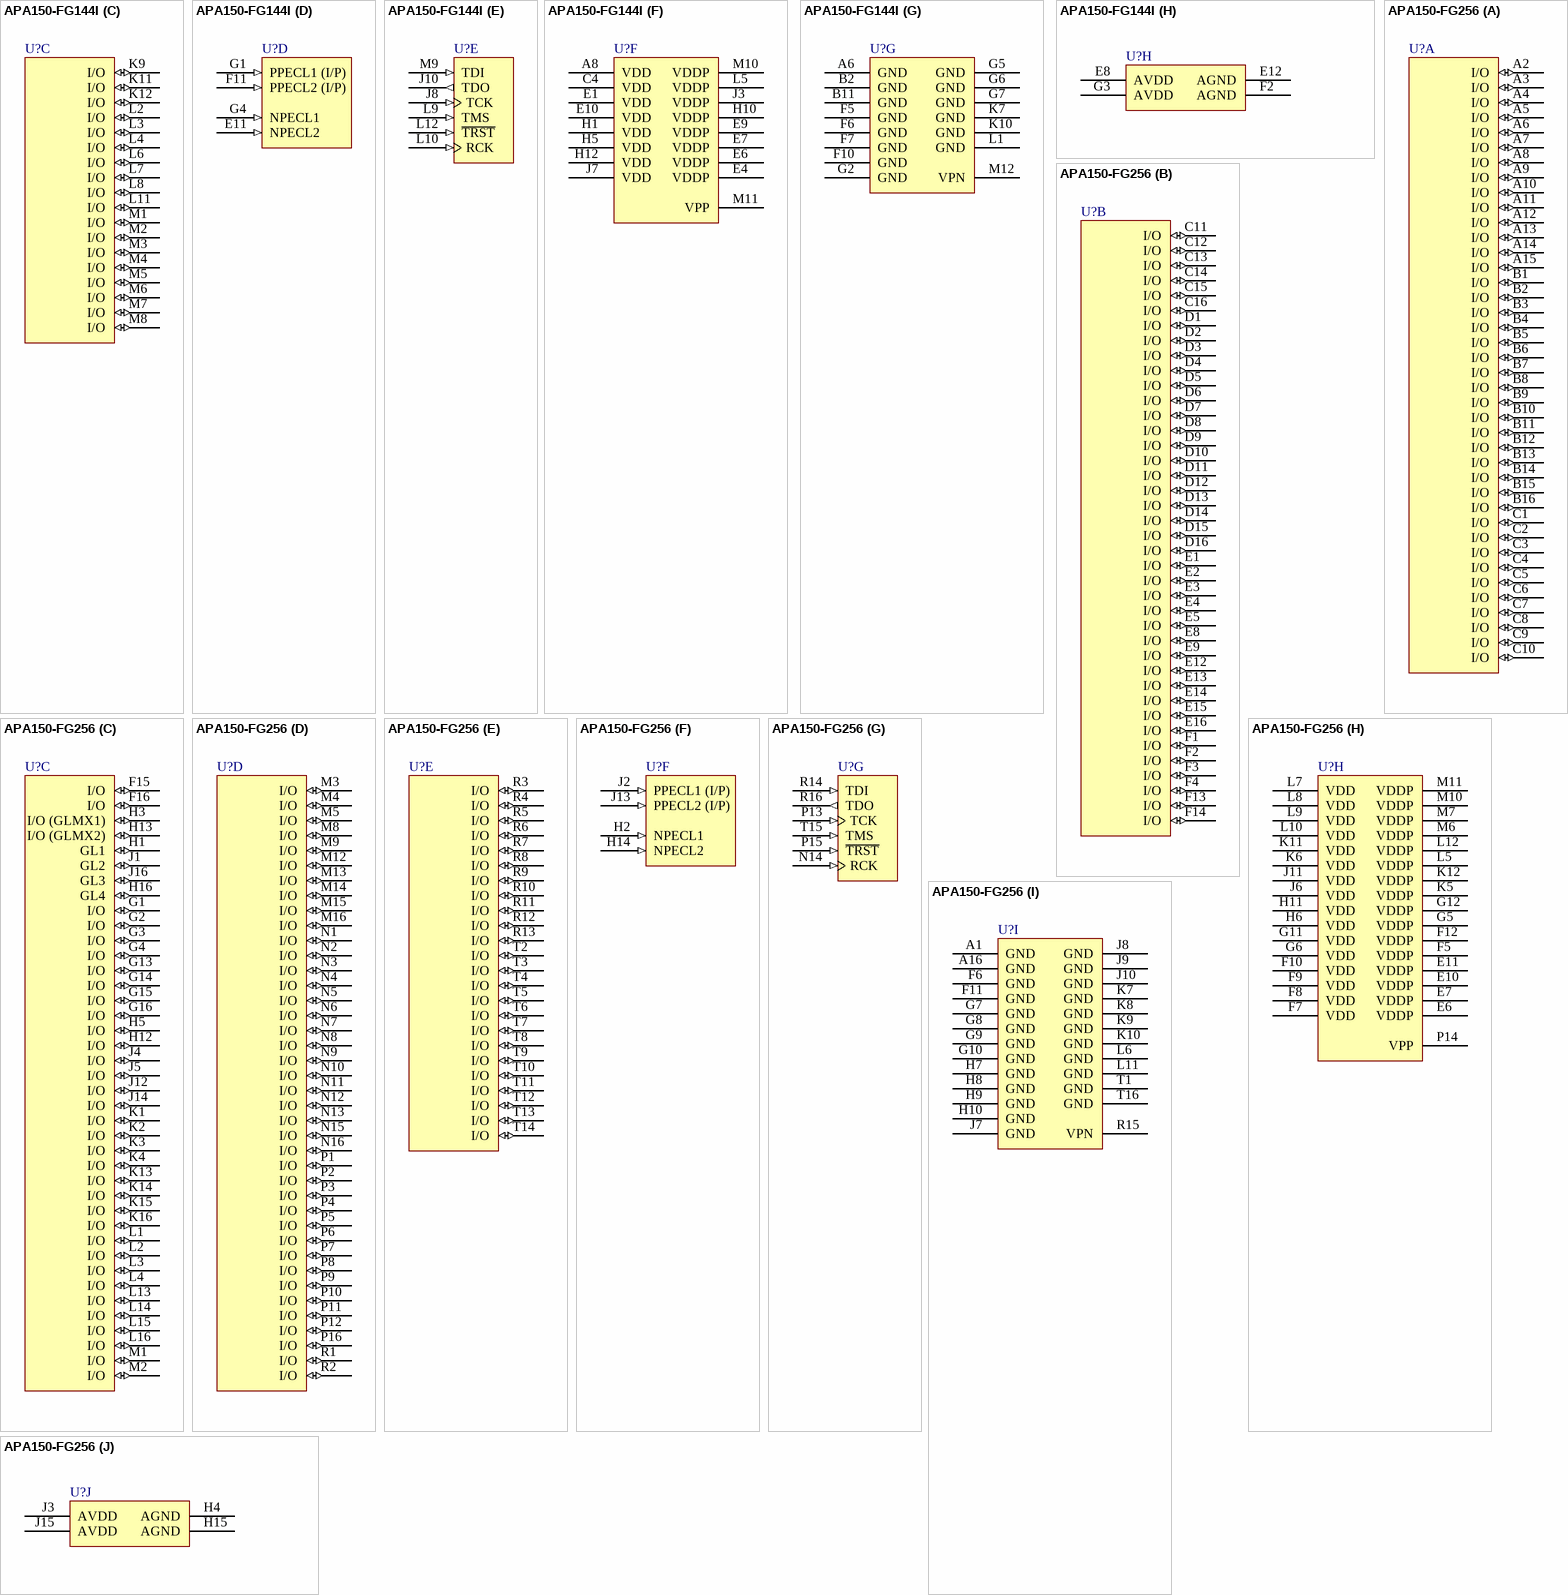
[diagram p21: symbols APA150-FG144I to APA150-FG256]

## APA150-FG144I
designator U?
ProASICPlus APA150 Flash FPGA, 100 User IOs, 114-Pin FBGA, Speed Grade Standard, Industrial Grade; DatasheetVersion: v5.9, Jan-2010; PackageVersion: rev39, Aug-2010; PackageReference: FG144; PackageDescription: 144-Ball Fine Pitch Plastic Ball Grid Array (FG144); Code_JEDEC: MO-192-DAD-1; ComponentLink1Description: Manufacturer URL; ComponentLink1URL: http://www.actel.com/; ComponentLink2Description: ProASIC PLUS Datasheet; ComponentLink2URL: http://www.actel.com/documents/ProASICPLUS_DS.pdf; ComponentLink3Description: Package Mechanical Drawings; ComponentLink3URL: http://www.actel.com/documents/PckgMechDrwngs.pdf; ComponentLink4Description: ProASIC PLUS Documents; ComponentLink4URL: http://www.actel.com/products/proasicplus/docs.aspx
footprint FG144 (BGA, 144-Leads, Body 13x13mm, Pitch 1mm)
part A pins: A1 I/O (io), A2 I/O (io), A3 I/O (io), A4 I/O (io), A5 I/O (io), A7 I/O (io), A9 I/O (io), A10 I/O (io), A11 I/O (io), A12 I/O (io), B1 I/O (io), B3 I/O (io), B4 I/O (io), B5 I/O (io), B6 I/O (io), B7 I/O (io), B8 I/O (io), B9 I/O (io), B10 I/O (io), B12 I/O (io), C1 I/O (io), C3 I/O (io), C5 I/O (io), C6 I/O (io), C7 I/O (io), C8 I/O (io), C9 I/O (io), C10 I/O (io), C11 I/O (io), C12 I/O (io), D1 I/O (io), D2 I/O (io), D3 I/O (io), D4 I/O (io), D5 I/O (io), D6 I/O (io), D7 I/O (io), D8 I/O (io), D9 I/O (io), D10 I/O (io)
part B pins: C2 I/O (GL1) (io), D11 I/O (io), D12 I/O (GLMX2) (io), E2 I/O (io), E3 I/O (io), E5 I/O (io), F1 I/O (GL2) (io), F3 I/O (GLMX1) (io), F4 I/O (io), F8 I/O (io), F9 GL4 (io), F12 GL3 (io), G8 I/O (io), G9 I/O (io), G10 I/O (io), G11 I/O (io), G12 I/O (io), H2 I/O (io), H3 I/O (io), H4 I/O (io), H6 I/O (io), H7 I/O (io), H8 I/O (io), H9 I/O (io), H11 I/O (io), J1 I/O (io), J2 I/O (io), J4 I/O (io), J5 I/O (io), J6 I/O (io), J9 I/O (io), J11 I/O (io), J12 I/O (io), K1 I/O (io), K2 I/O (io), K3 I/O (io), K4 I/O (io), K5 I/O (io), K6 I/O (io), K8 I/O (io)
part C pins: K9 I/O (io), K11 I/O (io), K12 I/O (io), L2 I/O (io), L3 I/O (io), L4 I/O (io), L6 I/O (io), L7 I/O (io), L8 I/O (io), L11 I/O (io), M1 I/O (io), M2 I/O (io), M3 I/O (io), M4 I/O (io), M5 I/O (io), M6 I/O (io), M7 I/O (io), M8 I/O (io)
part D pins: E11 NPECL2 (in), F11 PPECL2 (I/P) (in), G1 PPECL1 (I/P) (in), G4 NPECL1 (in)
part E pins: J8 TCK (in), J10 TDO (out), L9 TMS (in), L10 RCK (in), L12 ~{TRST} (in), M9 TDI (in)
part F pins: A8 VDD (power), C4 VDD (power), E1 VDD (power), E4 VDDP (power), E6 VDDP (power), E7 VDDP (power), E9 VDDP (power), E10 VDD (power), H1 VDD (power), H5 VDD (power), H10 VDDP (power), H12 VDD (power), J3 VDDP (power), J7 VDD (power), L5 VDDP (power), M10 VDDP (power), M11 VPP (power)
part G pins: A6 GND (power), B2 GND (power), B11 GND (power), F5 GND (power), F6 GND (power), F7 GND (power), F10 GND (power), G2 GND (power), G5 GND (power), G6 GND (power), G7 GND (power), K7 GND (power), K10 GND (power), L1 GND (power), M12 VPN (power)
part H pins: E8 AVDD (power), E12 AGND (power), F2 AGND (power), G3 AVDD (power)